# Altium schematic symbol library My_lib.SchLib: 96 symbols
Pins are listed as number, name and electrical type; pins without a type are passive.

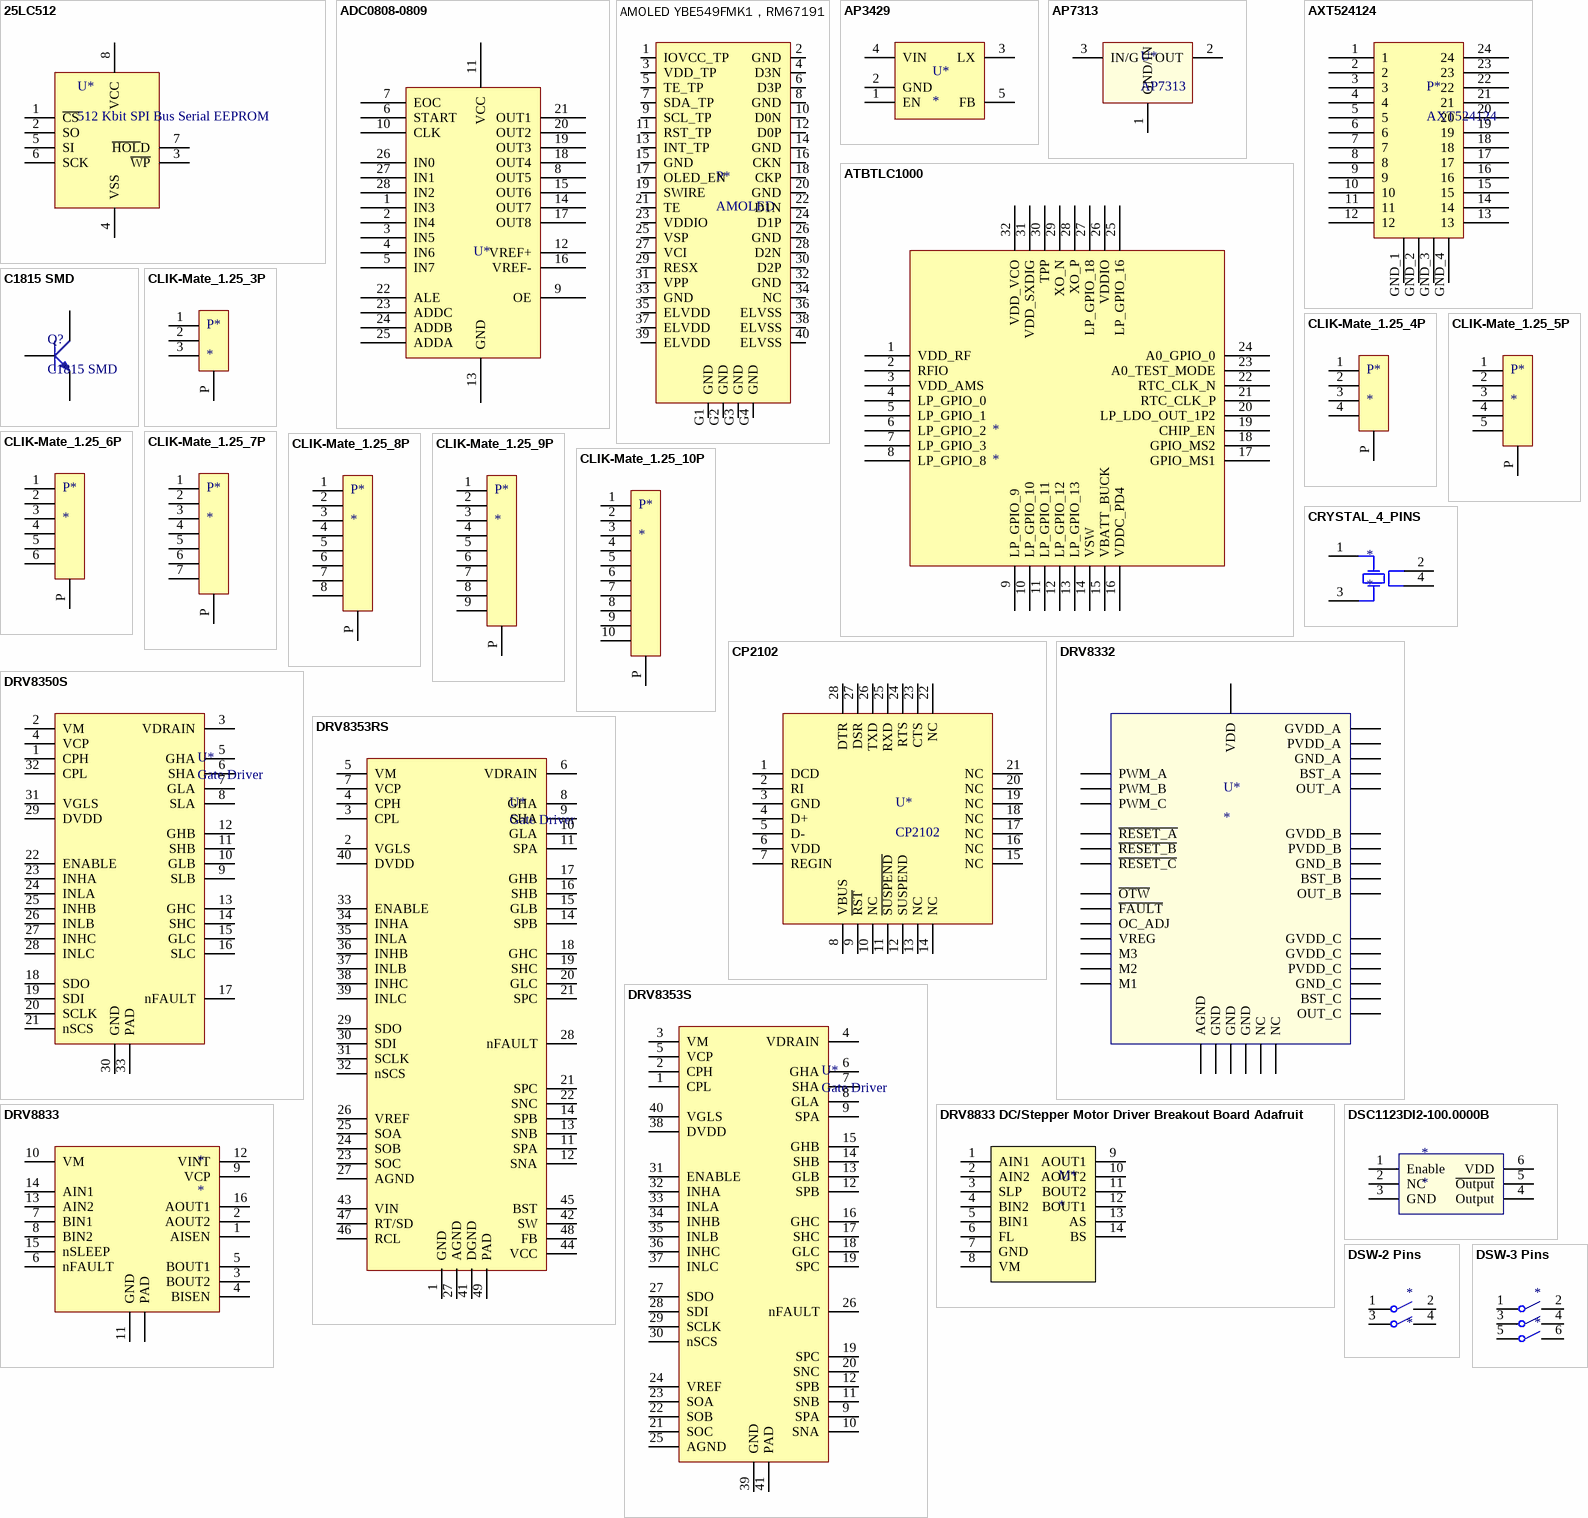
[diagram p0: symbols 25LC512 to DSW-3 Pins]

## 25LC512
designator U*, comment 512 Kbit SPI Bus Serial EEPROM
footprint SOIC8 (SOIC, 8-Leads, Body 4.90x3.90mm, Pitch 1.27mm, IPC Low Density)
pins: 1 ~{CS}, 2 SO, 3 ~{WP}, 4 VSS, 5 SI, 6 SCK, 7 ~{HOL}D, 8 VCC

## ADC0808-0809
designator U*, comment ADC  (value not drawn)
footprint DIP28_600
pins: 1 IN3, 2 IN4, 3 IN5, 4 IN6, 5 IN7, 6 START, 7 EOC, 8 OUT5, 9 OE, 10 CLK, 11 VCC, 12 VREF+, 13 GND, 14 OUT7, 15 OUT6, 16 VREF-, 17 OUT8, 18 OUT4, 19 OUT3, 20 OUT2, 21 OUT1, 22 ALE, 23 ADDC, 24 ADDB, 25 ADDA, 26 IN0, 27 IN1, 28 IN2

## AMOLED YBE549FMK1，RM67191
designator P*, comment AMOLED
pins: 1 IOVCC_TP, 2 GND, 3 VDD_TP, 4 D3N, 5 TE_TP, 6 D3P, 7 SDA_TP, 8 GND, 9 SCL_TP, 10 D0N, 11 RST_TP, 12 D0P, 13 INT_TP, 14 GND, 15 GND, 16 CKN, 17 OLED_EN, 18 CKP, 19 SWIRE, 20 GND, 21 TE, 22 D1N, 23 VDDIO, 24 D1P, 25 VSP, 26 GND, 27 VCI, 28 D2N, 29 RESX, 30 D2P, 31 VPP, 32 GND, 33 GND, 34 NC, 35 ELVDD, 36 ELVSS, 37 ELVDD, 38 ELVSS, 39 ELVDD, 40 ELVSS, G1 GND, G2 GND, G3 GND, G4 GND

## AP3429
designator U*
pins: 1 EN, 2 GND, 3 LX, 4 VIN, 5 FB

## AP7313
designator U*
footprint SOT23(3) (SOT23, 5-Leads, Body 2.90x2.45mm, Pitch 0.95mm, IPC Medium Density)
pins: 1 GND/IN, 2 OUT, 3 IN/G

## ATBTLC1000
designator *
pins: 1 VDD_RF, 2 RFIO, 3 VDD_AMS, 4 LP_GPIO_0, 5 LP_GPIO_1, 6 LP_GPIO_2, 7 LP_GPIO_3, 8 LP_GPIO_8, 9 LP_GPIO_9, 10 LP_GPIO_10, 11 LP_GPIO_11, 12 LP_GPIO_12, 13 LP_GPIO_13, 14 VSW, 15 VBATT_BUCK, 16 VDDC_PD4, 17 GPIO_MS1, 18 GPIO_MS2, 19 CHIP_EN, 20 LP_LDO_OUT_1P2, 21 RTC_CLK_P, 22 RTC_CLK_N, 23 A0_TEST_MODE, 24 A0_GPIO_0, 25 LP_GPIO_16, 26 VDDIO, 27 LP_GPIO_18, 28 XO_P, 29 XO_N, 30 TPP, 31 VDD_SXDIG, 32 VDD_VCO

## AXT524124
designator P*
footprint AXT524124 (Narrow Pitch Connector F4S (0.4 mm pitch) Socket - 24 Pins -  Mated height 1.0 mm - Without positioning bosses -  Base: Ni plating Surface: Au plating (for Ni barrier available))
pins: 1, 2, 3, 4, 5, 6, 7, 8, 9, 10, 11, 12, 13, 14, 15, 16, 17, 18, 19, 20, 21, 22, 23, 24, GND_1, GND_2, GND_3, GND_4

## C1815 SMD
designator Q?
pins: 1 B, 2 E, 3 C

## CLIK-Mate_1.25_3P
designator P*
CLIK-Mate Wire-to-Board PCB Receptacle, 1.25mm Pitch, Single Row, Vertical, 3 Circuits
footprint CLIK-Mate_1.25_3P (CLIK-Mate Wire-to-Board PCB Receptacle, 1.25mm Pitch, Single Row, Vertical, 3 Circuits)
pins: 1, 2, 3, P

## CLIK-Mate_1.25_4P
designator P*
CLIK-Mate Wire-to-Board PCB Receptacle, 1.25mm Pitch, Single Row, Vertical, 4 Circuits
footprint CLIK-Mate_1.25_4P (CLIK-Mate Wire-to-Board PCB Receptacle, 1.25mm Pitch, Single Row, Vertical, 4 Circuits)
pins: 1, 2, 3, 4, P

## CLIK-Mate_1.25_5P
designator P*
CLIK-Mate Wire-to-Board PCB Receptacle, 1.25mm Pitch, Single Row, Vertical, 5 Circuits
footprint CLIK-Mate_1.25_5P (CLIK-Mate Wire-to-Board PCB Receptacle, 1.25mm Pitch, Single Row, Vertical, 5 Circuits)
pins: 1, 2, 3, 4, 5, P

## CLIK-Mate_1.25_6P
designator P*
CLIK-Mate Wire-to-Board PCB Receptacle, 1.25mm Pitch, Single Row, Vertical, 6 Circuits
footprint CLIK-Mate_1.25_6P (CLIK-Mate Wire-to-Board PCB Receptacle, 1.25mm Pitch, Single Row, Vertical, 6 Circuits)
pins: 1, 2, 3, 4, 5, 6, P

## CLIK-Mate_1.25_7P
designator P*
CLIK-Mate Wire-to-Board PCB Receptacle, 1.25mm Pitch, Single Row, Vertical, 7 Circuits
footprint CLIK-Mate_1.25_7P (CLIK-Mate Wire-to-Board PCB Receptacle, 1.25mm Pitch, Single Row, Vertical, 7 Circuits)
pins: 1, 2, 3, 4, 5, 6, 7, P

## CLIK-Mate_1.25_8P
designator P*
CLIK-Mate Wire-to-Board PCB Receptacle, 1.25mm Pitch, Single Row, Vertical, 8 Circuits
footprint CLIK-Mate_1.25_8P (CLIK-Mate Wire-to-Board PCB Receptacle, 1.25mm Pitch, Single Row, Vertical, 8 Circuits)
pins: 1, 2, 3, 4, 5, 6, 7, 8, P

## CLIK-Mate_1.25_9P
designator P*
CLIK-Mate Wire-to-Board PCB Receptacle, 1.25mm Pitch, Single Row, Vertical, 9 Circuits
footprint CLIK-Mate_1.25_9P (CLIK-Mate Wire-to-Board PCB Receptacle, 1.25mm Pitch, Single Row, Vertical, 9 Circuits)
pins: 1, 2, 3, 4, 5, 6, 7, 8, 9, P

## CLIK-Mate_1.25_10P
designator P*
CLIK-Mate Wire-to-Board PCB Receptacle, 1.25mm Pitch, Single Row, Vertical, 10 Circuits
footprint CLIK-Mate_1.25_10P (CLIK-Mate Wire-to-Board PCB Receptacle, 1.25mm Pitch, Single Row, Vertical, 10 Circuits)
pins: 1, 2, 3, 4, 5, 6, 7, 8, 9, 10, P

## CP2102
designator U*
footprint QFN28_pitch 0.5 (28-Pin QFN with Exposed Thermal Pad with 0.5mm pitch)
pins: 1 DCD, 2 RI, 3 GND, 4 D+, 5 D-, 6 VDD, 7 REGIN, 8 VBUS, 9 ~{RST}, 10 NC, 11 ~{SUSPEND}, 12 SUSPEND, 13 NC, 14 NC, 15 NC, 16 NC, 17 NC, 18 NC, 19 NC, 20 NC, 21 NC, 22 NC, 23 CTS, 24 RTS, 25 RXD, 26 TXD, 27 DSR, 28 DTR

## CRYSTAL_4_PINS
designator *
footprint SMD3225(4) (SMD3225, 4-Leads, Body 2.50x3.20mm, Pitch 2.10mm, IPC Medium Density)
pins: 1 OSC1, 2 OSC2, 3 OSC2, 4

## DRV8332
designator U*
Three-Phase PWM Motor Driver
footprint HSSOP36_HEATSINK (HSSOP, 36-Leads, Body 15.90x11.00mm, Pitch 0.65mm, IPC Medium Density)
pins: 1 GVDD_B, 2 ~{OTW}, 3 ~{FAULT}, 4 PWM_A, 5 ~{RESET_A}, 6 PWM_B, 7 OC_ADJ, 8 GND, 9 AGND, 10 VREG, 11 M3, 12 M2, 13 M1, 14 ~{RESET_B}, 15 ~{RESET_C}, 16 PWM_C, 17 VDD, 18 GVDD_C, 19 GVDD_C, 20 BST_C, 21 PVDD_C, 22 OUT_C, 23 GND_C, 24 GND, 25 GND, 26 NC, 27 NC, 28 BST_B, 29 PVDD_B, 30 OUT_B, 31 GND_B, 32 GND_A, 33 OUT_A, 34 PVDD_A, 35 BST_A, 36 GVDD_A

## DRV8350S
designator U*, comment Gate Driver
footprint WQFN_32 (QFN, 32-Leads, Body 5.00x5.00mm, Pitch 0.50mm, Thermal Pad 3.45x3.45mm, IPC High Density)
pins: 1 CPH "Charge pump switching node. Connect a X5R or X7R, 47-nF, VDRAIN-rated ceramic capacitor between the CPH and CPL pins.", 2 VM "Gate driver power supply input. Connect to either VDRAIN or separate gate driver supply voltage. Connect a X5R or X7R, 0.1-µF, VM-rated ceramic and greater then or equal to 10-uF local capacitance between the VM and GND pins.", 3 VDRAIN "High-side MOSFET drain sense input and charge pump reference. Connect to the common point of the MOSFET drains.", 4 VCP "Charge pump output. Connect a X5R or X7R, 1-µF, 16-V ceramic capacitor between the VCP and VDRAIN pins.", 5 GHA "High-side gate driver output. Connect to the gate of the high-side power MOSFET.", 6 SHA "High-side source sense input. Connect to the high-side power MOSFET source.", 7 GLA "Low-side gate driver output. Connect to the gate of the low-side power MOSFET.", 8 SLA "Low-side source sense and shunt amplifier input. Connect to the low-side power MOSFET source and high-side of the current shunt resistor.", 9 SLB "Low-side source sense and shunt amplifier input. Connect to the low-side power MOSFET source and high-side of the current shunt resistor.", 10 GLB "Low-side gate driver output. Connect to the gate of the low-side power MOSFET.", 11 SHB "High-side source sense input. Connect to the high-side power MOSFET source.", 12 GHB "High-side gate driver output. Connect to the gate of the high-side power MOSFET.", 13 GHC "High-side gate driver output. Connect to the gate of the high-side power MOSFET.", 14 SHC "High-side source sense input. Connect to the high-side power MOSFET source.", 15 GLC "Low-side gate driver output. Connect to the gate of the low-side power MOSFET.", 16 SLC "Low-side source sense and shunt amplifier input. Connect to the low-side power MOSFET source and high-side of the current shunt resistor.", 17 nFAULT "Fault indicator output. This pin is pulled logic low during a fault condition and requires an external pullup resistor.", 18 SDO "Serial data output. Data is shifted out on the rising edge of the SCLK pin. This pin requires an external pullup resistor.", 19 SDI "Serial data input. Data is captured on the falling edge of the SCLK pin.", 20 SCLK "Serial clock input. Serial data is shifted out and captured on the corresponding rising and falling edge on this pin.", 21 nSCS "Serial chip select. A logic low on this pin enables serial interface communication.", 22 ENABLE "Gate driver enable. When this pin is logic low the device goes to a low power sleep mode. An 8 to 40-µs low pulse can be used to reset fault conditions.", 23 INHA "High-side gate driver control input. This pin controls the output of the high-side gate driver.", 24 INLA "Low-side gate driver control input. This pin controls the output of the low-side gate driver.", 25 INHB "High-side gate driver control input. This pin controls the output of the high-side gate driver.", 26 INLB "Low-side gate driver control input. This pin controls the output of the low-side gate driver.", 27 INHC "High-side gate driver control input. This pin controls the output of the high-side gate driver.", 28 INLC "Low-side gate driver control input. This pin controls the output of the low-side gate driver.", 29 DVDD "5-V internal regulator output. Connect a X5R or X7R, 1-µF, 6.3-V ceramic capacitor between the DVDD and DGND pins. This regulator can source up to 10 mA externally.", 30 GND "Device power ground. Connect to system ground.", 31 VGLS "11-V internal regulator output. Connect a X5R or X7R, 1-µF, 16-V ceramic capacitor between the VGLS and GND pins.", 32 CPL "Charge pump switching node. Connect a X5R or X7R, 47-nF, VDRAIN-rated ceramic capacitor between the CPH and CPL pins.", 33 PAD "Device ground. Connect to system ground."

## DRV8353RS
designator U*, comment Gate Driver
pins: 1 GND "Device power ground. Connect to system ground.", 2 VGLS "11-V internal regulator output. Connect a X5R or X7R, 1-µF, 16-V ceramic capacitor between the VGLS and GND pins.", 3 CPL "Charge pump switching node. Connect a X5R or X7R, 47-nF, VDRAIN-rated ceramic capacitor between the CPH and CPL pins.", 4 CPH "Charge pump switching node. Connect a X5R or X7R, 47-nF, VDRAIN-rated ceramic capacitor between the CPH and CPL pins.", 5 VM "Gate driver power supply input. Connect to either VDRAIN or separate gate driver supply voltage. Connect a X5R or X7R, 0.1-µF, VM-rated ceramic and greater then or equal to 10-uF local capacitance between the VM and GND pins.", 6 VDRAIN "High-side MOSFET drain sense input and charge pump reference. Connect to the common point of the MOSFET drains.", 7 VCP "Charge pump output. Connect a X5R or X7R, 1-µF, 16-V ceramic capacitor between the VCP and VDRAIN pins.", 8 GHA "High-side gate driver output. Connect to the gate of the high-side power MOSFET.", 9 SHA "High-side source sense input. Connect to the high-side power MOSFET source.", 10 GLA "Low-side gate driver output. Connect to the gate of the low-side power MOSFET.", 11 SPA "Low-side source sense and shunt amplifier input. Connect to the low-side power MOSFET source and high-side of the current shunt resistor.", 11 SPA "Low-side source sense and shunt amplifier input. Connect to the low-side power MOSFET source and high-side of the current shunt resistor.", 12 SNA "Shunt amplifier input. Connect to the low-side of the current shunt resistor.", 13 SNB "Shunt amplifier input. Connect to the low-side of the current shunt resistor.", 14 SPB "Low-side source sense and shunt amplifier input. Connect to the low-side power MOSFET source and high-side of the current shunt resistor.", 14 SPB "Low-side source sense and shunt amplifier input. Connect to the low-side power MOSFET source and high-side of the current shunt resistor.", 15 GLB "Low-side gate driver output. Connect to the gate of the low-side power MOSFET.", 16 SHB "High-side source sense input. Connect to the high-side power MOSFET source.", 17 GHB "High-side gate driver output. Connect to the gate of the high-side power MOSFET.", 18 GHC "High-side gate driver output. Connect to the gate of the high-side power MOSFET.", 19 SHC "High-side source sense input. Connect to the high-side power MOSFET source.", 20 GLC "Low-side gate driver output. Connect to the gate of the low-side power MOSFET.", 21 SPC "Low-side source sense and shunt amplifier input. Connect to the low-side power MOSFET source and high-side of the current shunt resistor.", 21 SPC "Low-side source sense and shunt amplifier input. Connect to the low-side power MOSFET source and high-side of the current shunt resistor.", 22 SNC "Shunt amplifier input. Connect to the low-side of the current shunt resistor.", 23 SOC "Shunt amplifier output.", 24 SOB "Shunt amplifier output.", 25 SOA "Shunt amplifier output.", 26 VREF "Shunt amplifier power supply input and reference. Connect a X5R or X7R, 0.1-µF, 6.3-V ceramic capacitor between the VREF and AGND pins.", 27 AGND "Device analog ground. Connect to system ground.", 27 AGND "Device analog ground. Connect to system ground.", 28 nFAULT "Fault indicator output. This pin is pulled logic low during a fault condition and requires an external pullup resistor.", 29 SDO "Serial data output. Data is shifted out on the rising edge of the SCLK pin. This pin requires an external pullup resistor.", 30 SDI "Serial data input. Data is captured on the falling edge of the SCLK pin.", 31 SCLK "Serial clock input. Serial data is shifted out and captured on the corresponding rising and falling edge on this pin.", 32 nSCS "Serial chip select. A logic low on this pin enables serial interface communication.", 33 ENABLE "Gate driver enable. When this pin is logic low the device goes to a low power sleep mode. An 8 to 40-µs low pulse can be used to reset fault conditions.", 34 INHA "High-side gate driver control input. This pin controls the output of the high-side gate driver.", 35 INLA "Low-side gate driver control input. This pin controls the output of the low-side gate driver.", 36 INHB "High-side gate driver control input. This pin controls the output of the high-side gate driver.", 37 INLB "Low-side gate driver control input. This pin controls the output of the low-side gate driver.", 38 INHC "High-side gate driver control input. This pin controls the output of the high-side gate driver.", 39 INLC "Low-side gate driver control input. This pin controls the output of the low-side gate driver.", 40 DVDD "5-V internal regulator output. Connect a X5R or X7R, 1-µF, 6.3-V ceramic capacitor between the DVDD and DGND pins. This regulator can source up to 10 mA externally.", 41 DGND "Device ground. Connect to system ground.", 42 SW "Buck switch node. Connect this pin to an inductor, diode, and the CB bootstrap capacitor.", 43 VIN "Buck regulator power supply input. Place an X5R or X7R, VM-rated ceramic capacitor between the VIN and BGND pins.", 44 VCC "7-V internal regulator output. Gate supply for buck switch. Connect a X5R or X7R, 0.47-µF, 16-V ceramic capacitor between the VCC and GND pins.", 45 BST "Buck regulator bootstrap input. Connect a X5R or X7R, 0.01-µF, 16-V, capacitor between the BST and SW pins.", 46 RCL "Current limit off time set input. Connect a resistor between RCL and GND.", 47 RT/SD "On time set and remote shutdown input. Connect a resistor between RT/SD and VIN.", 48 FB "Buck feedback input. A resistor divider from the buck post inductor output to this pin sets the buck output voltage.", 49 PAD "Device ground. Connect to system ground."

## DRV8353S
designator U*, comment Gate Driver
footprint WQFN_40 (WQFN, 40-Leads, Body 6.00x6.00mm, Pitch 0.50mm, Thermal Pad 4.15x4.15mm, IPC Medium Density)
pins: 1 CPL "Charge pump switching node. Connect a X5R or X7R, 47-nF, VDRAIN-rated ceramic capacitor between the CPH and CPL pins.", 2 CPH "Charge pump switching node. Connect a X5R or X7R, 47-nF, VDRAIN-rated ceramic capacitor between the CPH and CPL pins.", 3 VM "Gate driver power supply input. Connect to either VDRAIN or separate gate driver supply voltage. Connect a X5R or X7R, 0.1-µF, VM-rated ceramic and greater then or equal to 10-uF local capacitance between the VM and GND pins.", 4 VDRAIN "High-side MOSFET drain sense input and charge pump reference. Connect to the common point of the MOSFET drains.", 5 VCP "Charge pump output. Connect a X5R or X7R, 1-µF, 16-V ceramic capacitor between the VCP and VDRAIN pins.", 6 GHA "High-side gate driver output. Connect to the gate of the high-side power MOSFET.", 7 SHA "High-side source sense input. Connect to the high-side power MOSFET source.", 8 GLA "Low-side gate driver output. Connect to the gate of the low-side power MOSFET.", 9 SPA "Low-side source sense and shunt amplifier input. Connect to the low-side power MOSFET source and high-side of the current shunt resistor.", 9 SPA "Low-side source sense and shunt amplifier input. Connect to the low-side power MOSFET source and high-side of the current shunt resistor.", 10 SNA "Shunt amplifier input. Connect to the low-side of the current shunt resistor.", 11 SNB "Shunt amplifier input. Connect to the low-side of the current shunt resistor.", 12 SPB "Low-side source sense and shunt amplifier input. Connect to the low-side power MOSFET source and high-side of the current shunt resistor.", 12 SPB "Low-side source sense and shunt amplifier input. Connect to the low-side power MOSFET source and high-side of the current shunt resistor.", 13 GLB "Low-side gate driver output. Connect to the gate of the low-side power MOSFET.", 14 SHB "High-side source sense input. Connect to the high-side power MOSFET source.", 15 GHB "High-side gate driver output. Connect to the gate of the high-side power MOSFET.", 16 GHC "High-side gate driver output. Connect to the gate of the high-side power MOSFET.", 17 SHC "High-side source sense input. Connect to the high-side power MOSFET source.", 18 GLC "Low-side gate driver output. Connect to the gate of the low-side power MOSFET.", 19 SPC "Low-side source sense and shunt amplifier input. Connect to the low-side power MOSFET source and high-side of the current shunt resistor.", 19 SPC "Low-side source sense and shunt amplifier input. Connect to the low-side power MOSFET source and high-side of the current shunt resistor.", 20 SNC "Shunt amplifier input. Connect to the low-side of the current shunt resistor.", 21 SOC "Shunt amplifier output.", 22 SOB "Shunt amplifier output.", 23 SOA "Shunt amplifier output.", 24 VREF "Shunt amplifier power supply input and reference. Connect a X5R or X7R, 0.1-µF, 6.3-V ceramic capacitor between the VREF and AGND pins.", 25 AGND "Device analog ground. Connect to system ground.", 26 nFAULT "Fault indicator output. This pin is pulled logic low during a fault condition and requires an external pullup resistor.", 27 SDO "Serial data output. Data is shifted out on the rising edge of the SCLK pin. This pin requires an external pullup resistor.", 28 SDI "Serial data input. Data is captured on the falling edge of the SCLK pin.", 29 SCLK "Serial clock input. Serial data is shifted out and captured on the corresponding rising and falling edge on this pin.", 30 nSCS "Serial chip select. A logic low on this pin enables serial interface communication.", 31 ENABLE "Gate driver enable. When this pin is logic low the device goes to a low power sleep mode. An 8 to 40-µs low pulse can be used to reset fault conditions.", 32 INHA "High-side gate driver control input. This pin controls the output of the high-side gate driver.", 33 INLA "Low-side gate driver control input. This pin controls the output of the low-side gate driver.", 34 INHB "High-side gate driver control input. This pin controls the output of the high-side gate driver.", 35 INLB "Low-side gate driver control input. This pin controls the output of the low-side gate driver.", 36 INHC "High-side gate driver control input. This pin controls the output of the high-side gate driver.", 37 INLC "Low-side gate driver control input. This pin controls the output of the low-side gate driver.", 38 DVDD "5-V internal regulator output. Connect a X5R or X7R, 1-µF, 6.3-V ceramic capacitor between the DVDD and DGND pins. This regulator can source up to 10 mA externally.", 39 GND "Device power ground. Connect to system ground.", 40 VGLS "11-V internal regulator output. Connect a X5R or X7R, 1-µF, 16-V ceramic capacitor between the VGLS and GND pins.", 41 PAD "Device ground. Connect to system ground."

## DRV8833
designator *
footprint WQFN_16 (WQFN, 16-Leads, Body 4.00x4.00mm, Pitch 0.65mm, Thermal Pad 2.10x2.10mm, IPC Medium Density)
pins: 1 AISEN, 2 AOUT2, 3 BOUT2, 4 BISEN, 5 BOUT1, 6 nFAULT, 7 BIN1, 8 BIN2, 9 VCP, 10 VM, 11 GND, 12 VINT, 13 AIN2, 14 AIN1, 15 nSLEEP, 16 AOUT1, 17 PAD

## DRV8833 DC/Stepper Motor Driver Breakout Board Adafruit
designator M*
footprint DRV8833 DC/Stepper Motor Driver Breakout Board Adafruit
pins: 1 AIN1, 2 AIN2, 3 SLP, 4 BIN2, 5 BIN1, 6 FL, 7 GND, 8 VM, 9 AOUT1, 10 AOUT2, 11 BOUT2, 12 BOUT1, 13 AS, 14 BS

## DSC1123DI2-100.0000B
designator *
pins: 1 Enable, 2 NC, 3 GND, 4 Output, 5 ~{Output}, 6 VDD

## DSW-2 Pins
designator *
footprint DSW_2 Pins
pins: 1, 2, 3, 4

## DSW-3 Pins
designator *
footprint DSW_3 Pins
pins: 1, 2, 3, 4, 5, 6

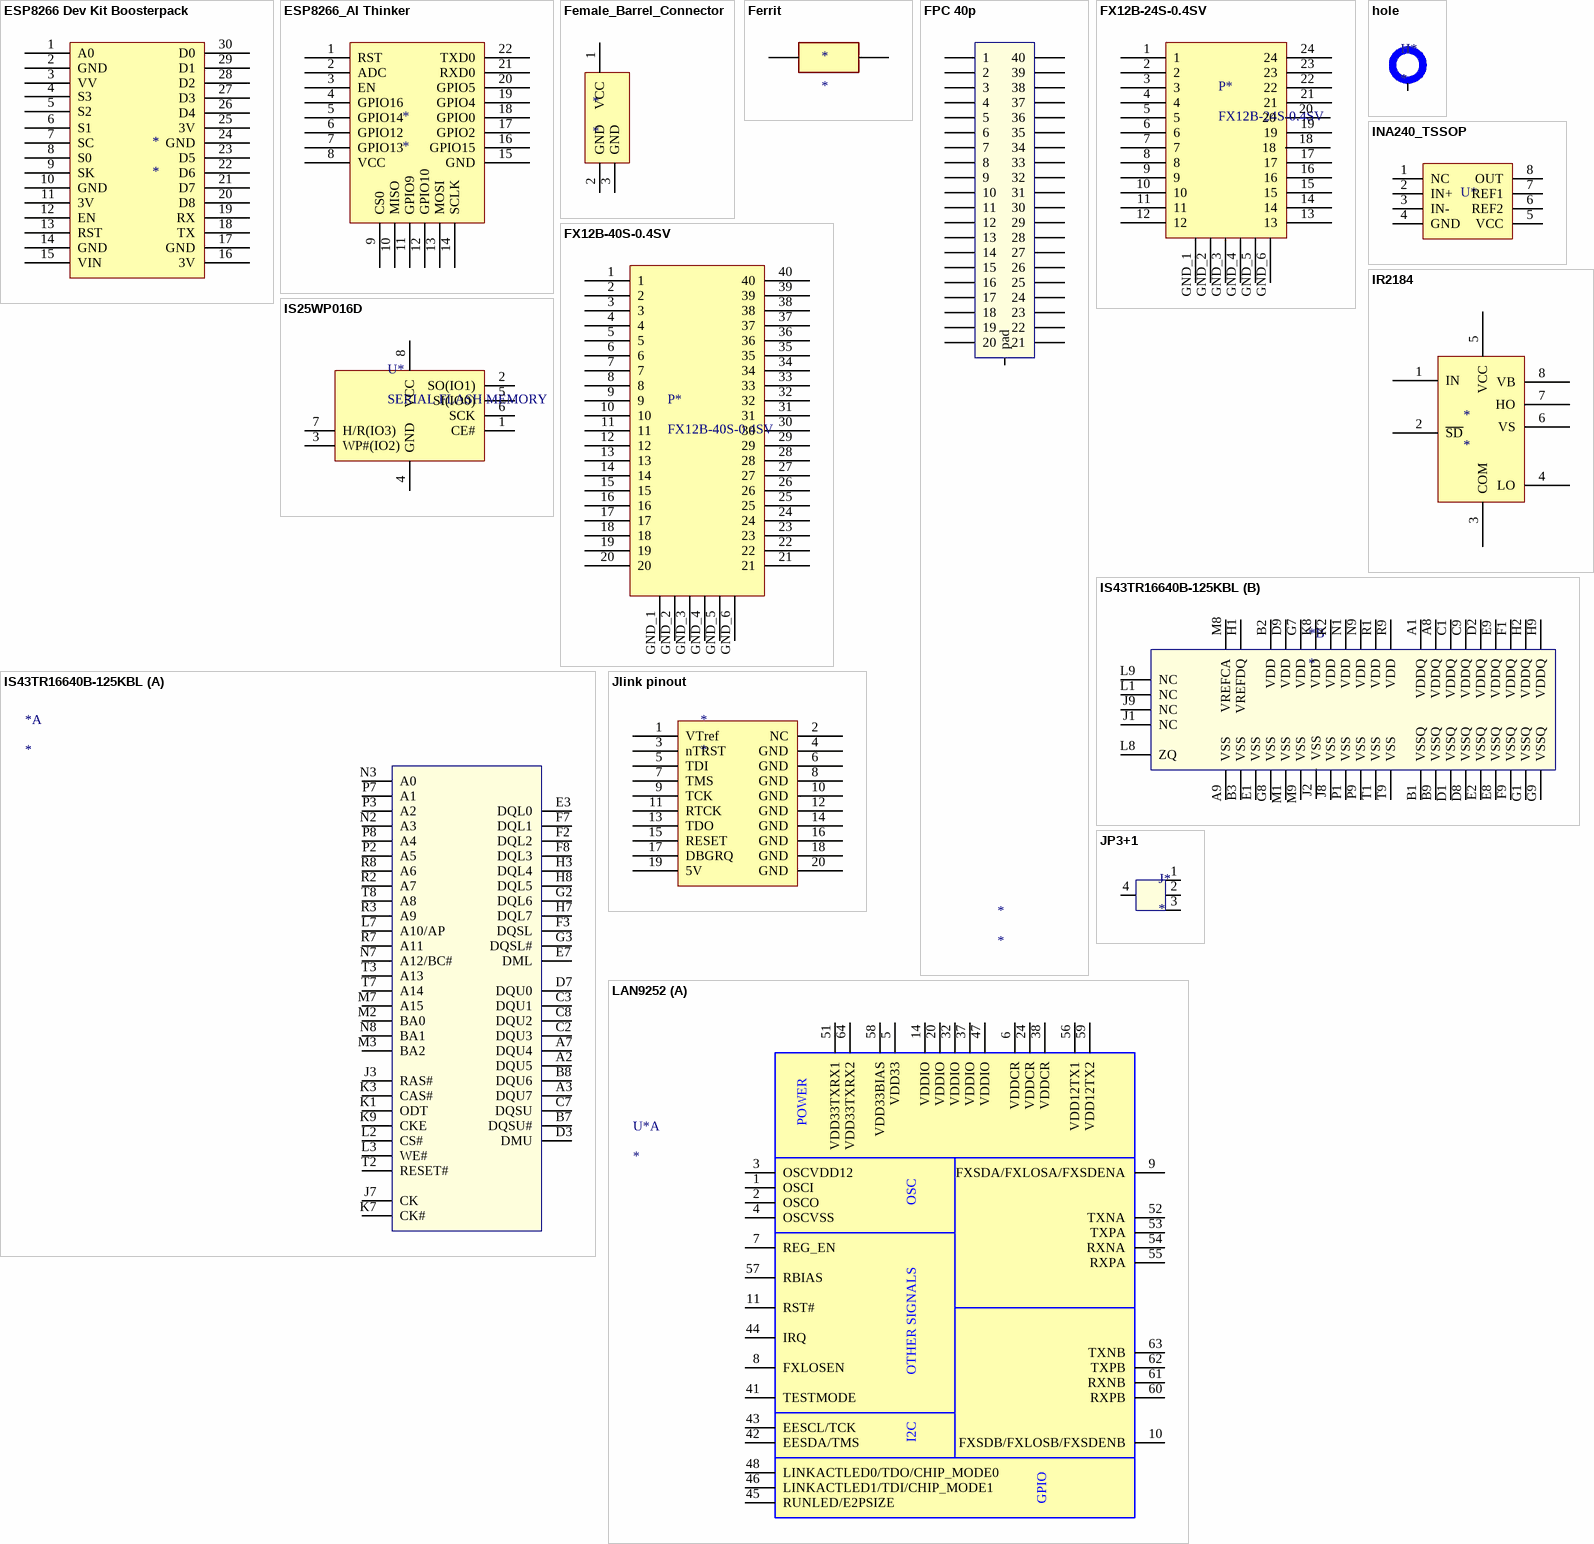
[diagram p1: symbols ESP8266 Dev Kit Boosterpack to LAN9252]

## ESP8266 Dev Kit Boosterpack
designator *
pins: 1 A0, 2 GND, 3 VV, 4 S3, 5 S2, 6 S1, 7 SC, 8 S0, 9 SK, 10 GND, 11 3V, 12 EN, 13 RST, 14 GND, 15 VIN, 16 3V, 17 GND, 18 TX, 19 RX, 20 D8, 21 D7, 22 D6, 23 D5, 24 GND, 25 3V, 26 D4, 27 D3, 28 D2, 29 D1, 30 D0

## ESP8266_AI Thinker
designator *
pins: 1 RST, 2 ADC, 3 EN, 4 GPIO16, 5 GPIO14, 6 GPIO12, 7 GPIO13, 8 VCC, 9 CS0, 10 MISO, 11 GPIO9, 12 GPIO10, 13 MOSI, 14 SCLK, 15 GND, 16 GPIO15, 17 GPIO2, 18 GPIO0, 19 GPIO4, 20 GPIO5, 21 RXD0, 22 TXD0

## Female_Barrel_Connector
designator *
footprint Female_Barrel_Connector
pins: 1 VCC, 2 GND, 3 GND

## Ferrit
designator *
pins: 0 1, 1 2

## FPC 40p
designator *
footprint FPC connector 0.5mm pitch 40p
pins: 0 pad, 1, 2, 3, 4, 5, 6, 7, 8, 9, 10, 11, 12, 13, 14, 15, 16, 17, 18, 19, 20, 21, 22, 23, 24, 25, 26, 27, 28, 29, 30, 31, 32, 33, 34, 35, 36, 37, 38, 39, 40

## FX12B-24S-0.4SV
designator P*
footprint FX12B-24S-0.4SV
pins: 1, 2, 3, 4, 5, 6, 7, 8, 9, 10, 11, 12, 13, 14, 15, 16, 17, 18, 19, 20, 21, 22, 23, 24, GND_1, GND_2, GND_3, GND_4, GND_5, GND_6

## FX12B-40S-0.4SV
designator P*
footprint FX12B-40S-0.4SV
pins: 1, 2, 3, 4, 5, 6, 7, 8, 9, 10, 11, 12, 13, 14, 15, 16, 17, 18, 19, 20, 21, 22, 23, 24, 25, 26, 27, 28, 29, 30, 31, 32, 33, 34, 35, 36, 37, 38, 39, 40, GND_1, GND_2, GND_3, GND_4, GND_5, GND_6

## hole
designator H*
footprint 3mm HOLE
footprint hole 2mm
pins: 0 GND

## INA240_TSSOP
designator U*
High- and Low-Side, Bidirectional, Zero-Drift, Current-Sense Amplifier With Enhanced PWM Rejection
footprint TSSOP-8-PITCH 0.65 (TSSOP, 8-Leads, Body 3.00x4.40mm, Pitch 0.65mm, IPC High Density)
pins: 1 NC, 2 IN+, 3 IN-, 4 GND, 5 VCC, 6 REF2, 7 REF1, 8 OUT

## IR2184
designator *
pins: 1 IN, 2 ~{SD}, 3 COM, 4 LO, 5 VCC, 6 VS, 7 HO, 8 VB

## IS25WP016D
designator U*, comment SERIAL FLASH MEMORY
footprint SOIC8 (SOIC, 8-Leads, Body 4.90x3.90mm, Pitch 1.27mm, IPC Low Density)
pins: 1 CE#, 2 SO(IO1), 3 WP#(IO2), 4 GND, 5 SI(IO0), 6 SCK, 7 H/R(IO3), 8 VCC

## IS43TR16640B-125KBL
designator *
part A pins: A2 DQU5, A3 DQU7, A7 DQU4, B7 DQSU#, B8 DQU6, C2 DQU3, C3 DQU1, C7 DQSU, C8 DQU2, D3 DMU, D7 DQU0, E3 DQL0, E7 DML, F2 DQL2, F3 DQSL, F7 DQL1, F8 DQL3, G2 DQL6, G3 DQSL#, H3 DQL4, H7 DQL7, H8 DQL5, J3 RAS#, J7 CK, K1 ODT, K3 CAS#, K7 CK#, K9 CKE, L2 CS#, L3 WE#, L7 A10/AP, M2 BA0, M3 BA2, M7 A15, N2 A3, N3 A0, N7 A12/BC#, N8 BA1, P2 A5, P3 A2, P7 A1, P8 A4, R2 A7, R3 A9, R7 A11, R8 A6, T2 RESET#, T3 A13, T7 A14, T8 A8
part B pins: A1 VDDQ, A8 VDDQ, A9 VSS, B1 VSSQ, B2 VDD, B3 VSS, B9 VSSQ, C1 VDDQ, C9 VDDQ, D1 VSSQ, D2 VDDQ, D8 VSSQ, D9 VDD, E1 VSS, E2 VSSQ, E8 VSSQ, E9 VDDQ, F1 VDDQ, F9 VSSQ, G1 VSSQ, G7 VDD, G8 VSS, G9 VSSQ, H1 VREFDQ, H2 VDDQ, H9 VDDQ, J1 NC, J2 VSS, J8 VSS, J9 NC, K2 VDD, K8 VDD, L1 NC, L8 ZQ, L9 NC, M1 VSS, M8 VREFCA, M9 VSS, N1 VDD, N9 VDD, P1 VSS, P9 VSS, R1 VDD, R9 VDD, T1 VSS, T9 VSS

## Jlink pinout
designator *
footprint BOX HEADER 2X10 PITCH 2.54MM
pins: 1 VTref, 2 NC, 3 nTRST, 4 GND, 5 TDI, 6 GND, 7 TMS, 8 GND, 9 TCK, 10 GND, 11 RTCK, 12 GND, 13 TDO, 14 GND, 15 RESET, 16 GND, 17 DBGRQ, 18 GND, 19 5V, 20 GND

## JP3+1
designator J*
footprint JP3+1
pins: 1, 2, 3, 4

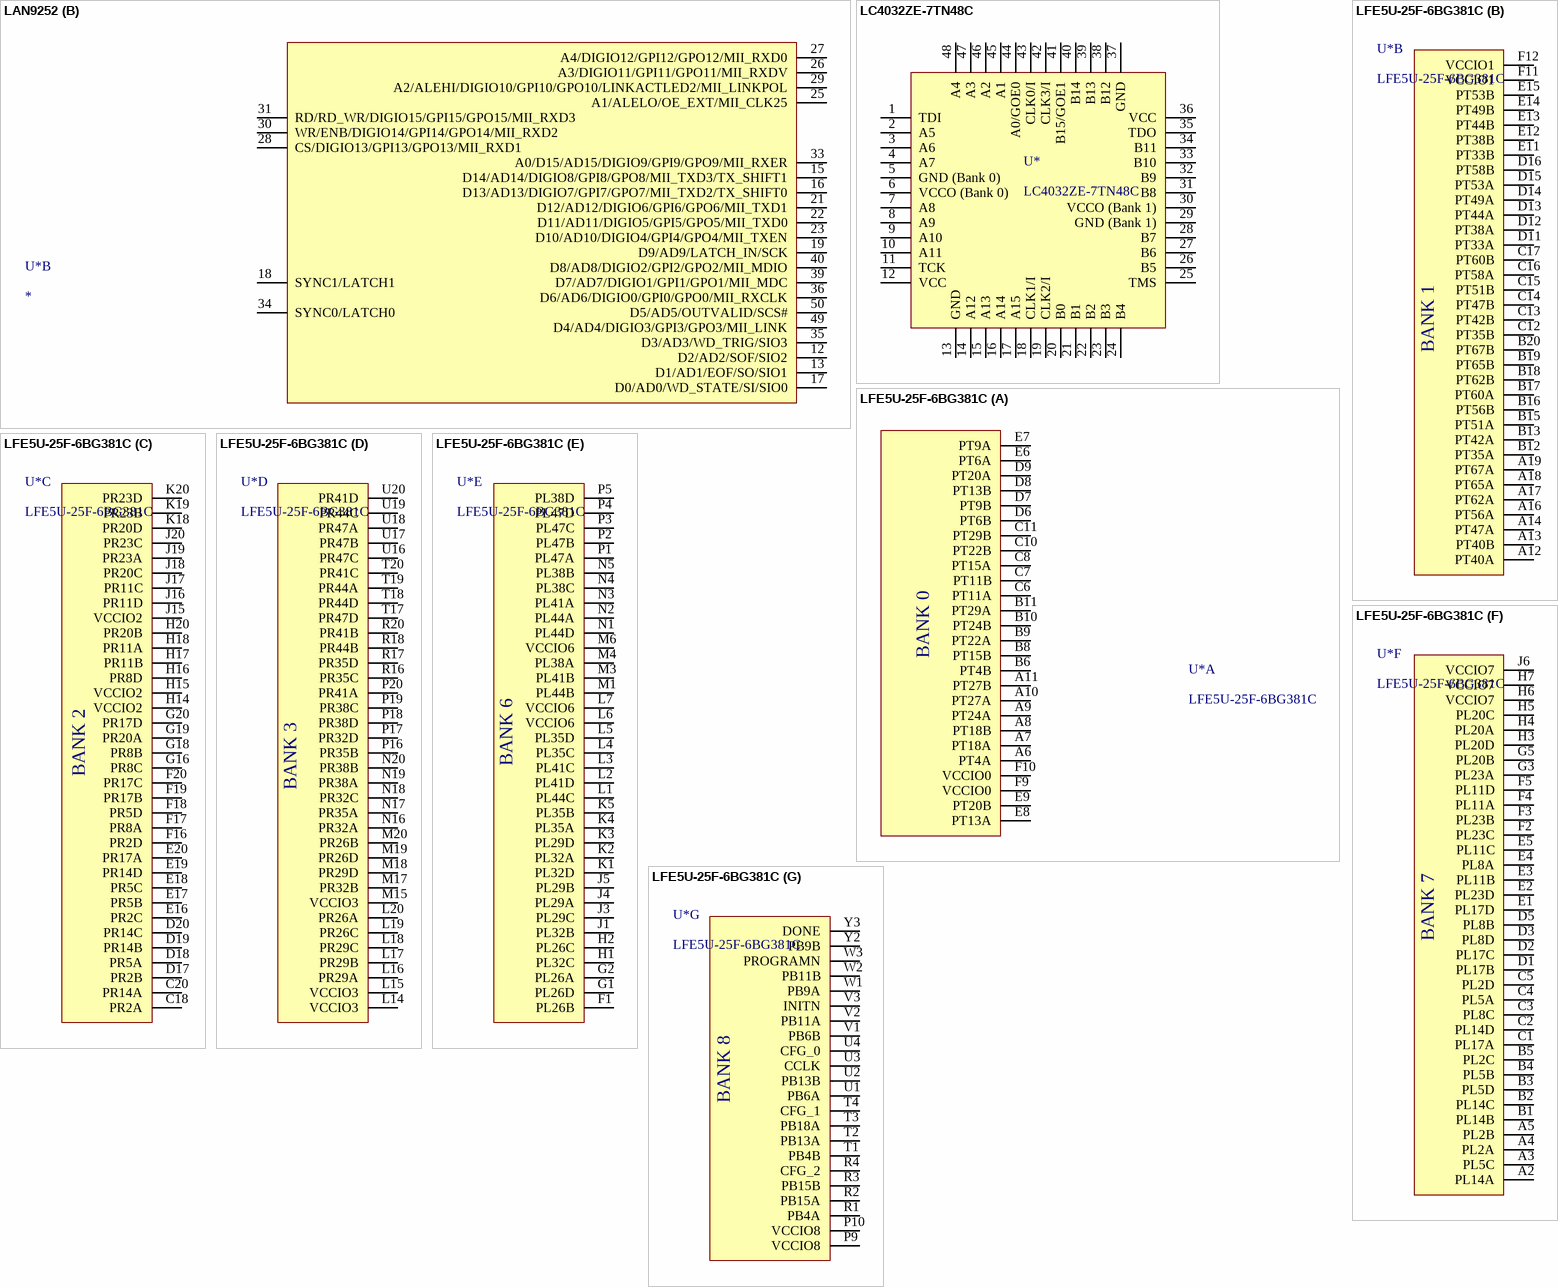
[diagram p2: symbols LAN9252 to LFE5U-25F-6BG381C]

## LAN9252
designator U*
2/3-Port EtherCAT® Slave Controller with Integrated Ethernet PHYs
footprint QFN64_PITCH 0.5 (64-Pin QFN with Exposed Thermal Pad with 0.5mm pitch)
footprint TQFP64_PITCH 0.5_THERMAL PAD (TQFP, 64-Leads, Body 10.00x10.00mm, Pitch 0.50mm, Thermal Pad 5.75x5.75mm, IPC High Density)
part A pins: 1 OSCI, 2 OSCO, 3 OSCVDD12, 4 OSCVSS, 5 VDD33, 6 VDDCR, 7 REG_EN, 8 FXLOSEN, 9 FXSDA/FXLOSA/FXSDENA, 10 FXSDB/FXLOSB/FXSDENB, 11 RST#, 14 VDDIO, 20 VDDIO, 24 VDDCR, 32 VDDIO, 37 VDDIO, 38 VDDCR, 41 TESTMODE, 42 EESDA/TMS, 43 EESCL/TCK, 44 IRQ, 45 RUNLED/E2PSIZE, 46 LINKACTLED1/TDI/CHIP_MODE1, 47 VDDIO, 48 LINKACTLED0/TDO/CHIP_MODE0, 51 VDD33TXRX1, 52 TXNA, 53 TXPA, 54 RXNA, 55 RXPA, 56 VDD12TX1, 57 RBIAS, 58 VDD33BIAS, 59 VDD12TX2, 60 RXPB, 61 RXNB, 62 TXPB, 63 TXNB, 64 VDD33TXRX2
part B pins: 12 D2/AD2/SOF/SIO2, 13 D1/AD1/EOF/SO/SIO1, 15 D14/AD14/DIGIO8/GPI8/GPO8/MII_TXD3/TX_SHIFT1, 16 D13/AD13/DIGIO7/GPI7/GPO7/MII_TXD2/TX_SHIFT0, 17 D0/AD0/WD_STATE/SI/SIO0, 18 SYNC1/LATCH1, 19 D9/AD9/LATCH_IN/SCK, 21 D12/AD12/DIGIO6/GPI6/GPO6/MII_TXD1, 22 D11/AD11/DIGIO5/GPI5/GPO5/MII_TXD0, 23 D10/AD10/DIGIO4/GPI4/GPO4/MII_TXEN, 25 A1/ALELO/OE_EXT/MII_CLK25, 26 A3/DIGIO11/GPI11/GPO11/MII_RXDV, 27 A4/DIGIO12/GPI12/GPO12/MII_RXD0, 28 CS/DIGIO13/GPI13/GPO13/MII_RXD1, 29 A2/ALEHI/DIGIO10/GPI10/GPO10/LINKACTLED2/MII_LINKPOL, 30 WR/ENB/DIGIO14/GPI14/GPO14/MII_RXD2, 31 RD/RD_WR/DIGIO15/GPI15/GPO15/MII_RXD3, 33 A0/D15/AD15/DIGIO9/GPI9/GPO9/MII_RXER, 34 SYNC0/LATCH0, 35 D3/AD3/WD_TRIG/SIO3, 36 D6/AD6/DIGIO0/GPI0/GPO0/MII_RXCLK, 39 D7/AD7/DIGIO1/GPI1/GPO1/MII_MDC, 40 D8/AD8/DIGIO2/GPI2/GPO2/MII_MDIO, 49 D4/AD4/DIGIO3/GPI3/GPO3/MII_LINK, 50 D5/AD5/OUTVALID/SCS#
part A text: POWER; OSC; OTHER SIGNALS; I2C; GPIO

## LC4032ZE-7TN48C
designator U*
footprint TQFP-48N (TQFP, 48-Leads, Body 7.00x7.00mm, Pitch 0.50mm)
pins: 1 TDI, 2 A5, 3 A6, 4 A7, 5 GND (Bank 0), 6 VCCO (Bank 0), 7 A8, 8 A9, 9 A10, 10 A11, 11 TCK, 12 VCC, 13 GND, 14 A12, 15 A13, 16 A14, 17 A15, 18 CLK1/I, 19 CLK2/I, 20 B0, 21 B1, 22 B2, 23 B3, 24 B4, 25 TMS, 26 B5, 27 B6, 28 B7, 29 GND (Bank 1), 30 VCCO (Bank 1), 31 B8, 32 B9, 33 B10, 34 B11, 35 TDO, 36 VCC, 37 GND, 38 B12, 39 B13, 40 B14, 41 B15/GOE1, 42 CLK3/I, 43 CLK0/I, 44 A0/GOE0, 45 A1, 46 A2, 47 A3, 48 A4

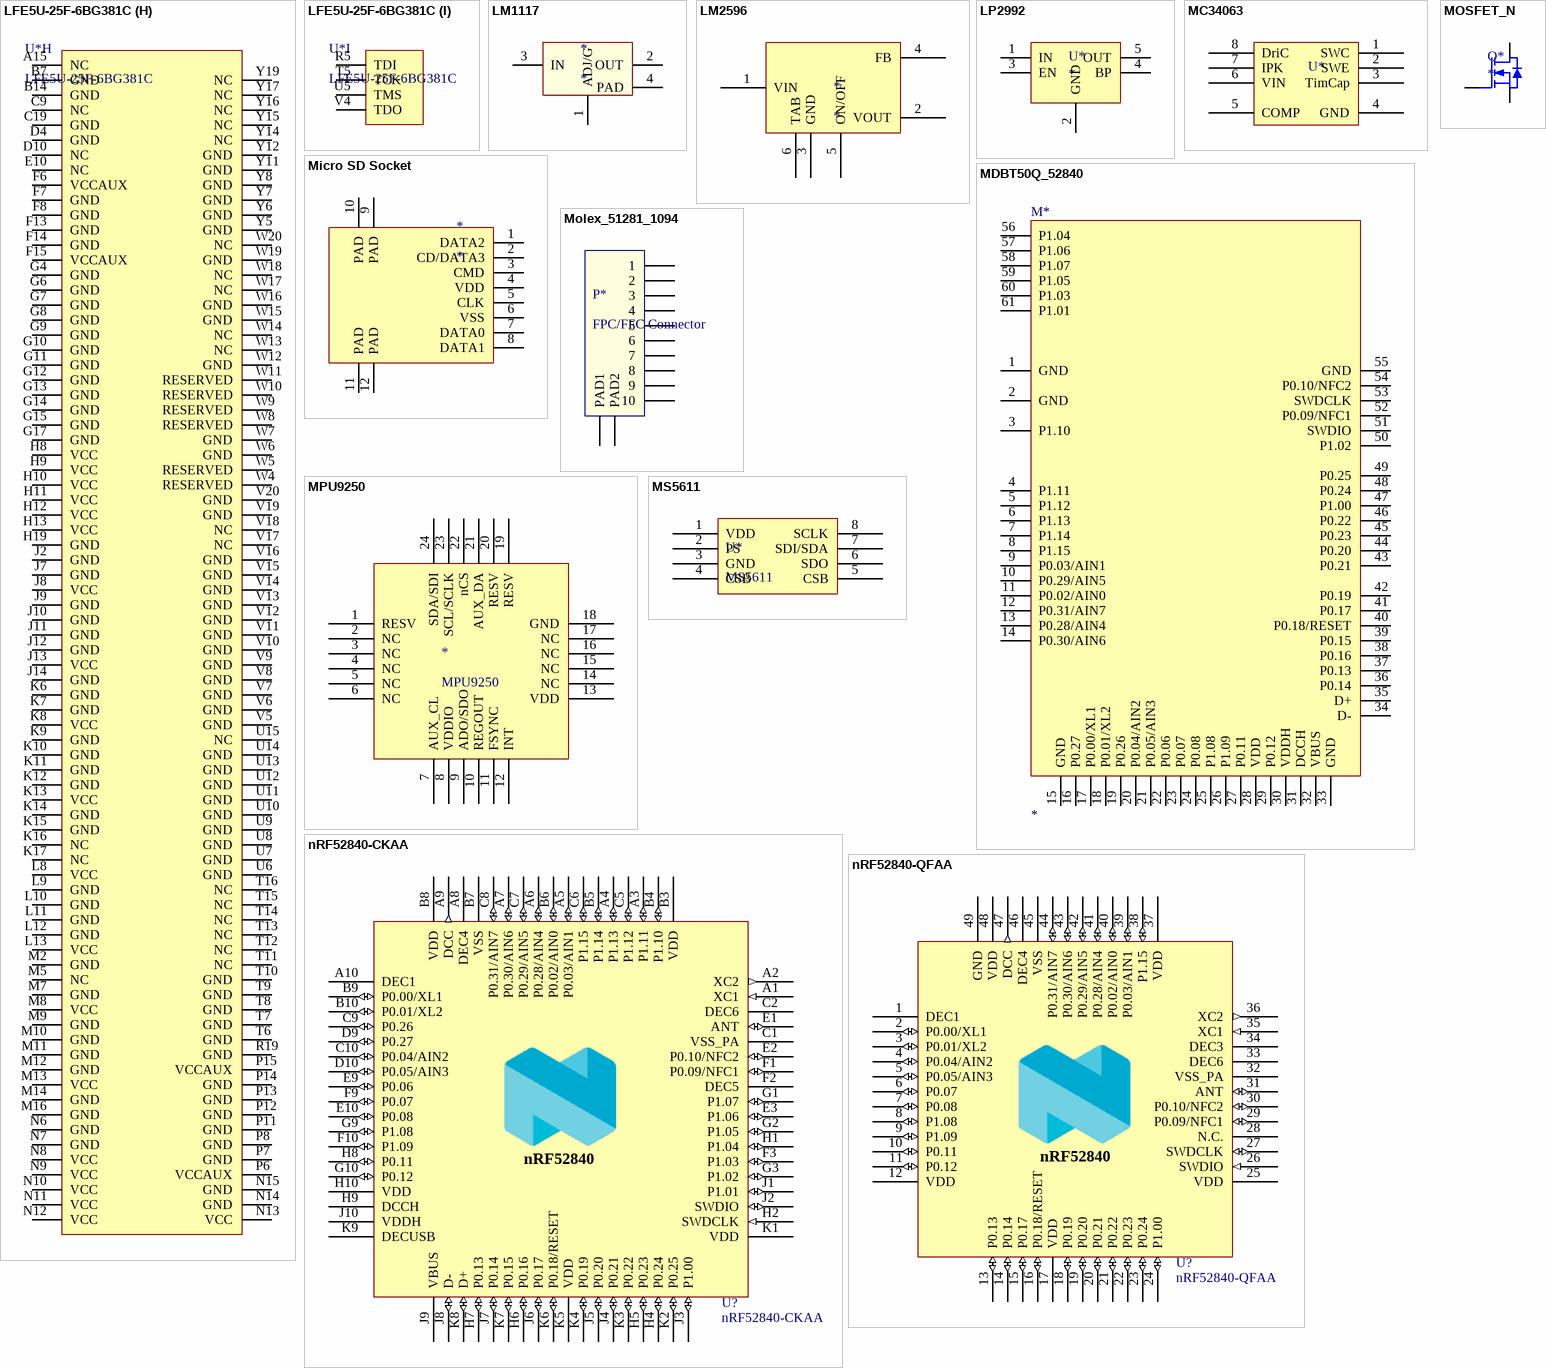
[diagram p3: symbols LFE5U-25F-6BG381C to nRF52840-QFAA]

## LFE5U-25F-6BG381C
designator U*
footprint BGA 381-Ball caBGA - LFE5U-25F-6BG381C (BGA, 381-Leads, Body 17.00x17.00mmx1.76mm, Pitch 0.80mm)
part A pins: A6 PT4A, A7 PT18A, A8 PT18B, A9 PT24A, A10 PT27A, A11 PT27B, B6 PT4B, B8 PT15B, B9 PT22A, B10 PT24B, B11 PT29A, C6 PT11A, C7 PT11B, C8 PT15A, C10 PT22B, C11 PT29B, D6 PT6B, D7 PT9B, D8 PT13B, D9 PT20A, E6 PT6A, E7 PT9A, E8 PT13A, E9 PT20B, F9 VCCIO0, F10 VCCIO0
part B pins: A12 PT40A, A13 PT40B, A14 PT47A, A16 PT56A, A17 PT62A, A18 PT65A, A19 PT67A, B12 PT35A, B13 PT42A, B15 PT51A, B16 PT56B, B17 PT60A, B18 PT62B, B19 PT65B, B20 PT67B, C12 PT35B, C13 PT42B, C14 PT47B, C15 PT51B, C16 PT58A, C17 PT60B, D11 PT33A, D12 PT38A, D13 PT44A, D14 PT49A, D15 PT53A, D16 PT58B, E11 PT33B, E12 PT38B, E13 PT44B, E14 PT49B, E15 PT53B, F11 VCCIO1, F12 VCCIO1
part C pins: C18 PR2A, C20 PR14A, D17 PR2B, D18 PR5A, D19 PR14B, D20 PR14C, E16 PR2C, E17 PR5B, E18 PR5C, E19 PR14D, E20 PR17A, F16 PR2D, F17 PR8A, F18 PR5D, F19 PR17B, F20 PR17C, G16 PR8C, G18 PR8B, G19 PR20A, G20 PR17D, H14 VCCIO2, H15 VCCIO2, H16 PR8D, H17 PR11B, H18 PR11A, H20 PR20B, J15 VCCIO2, J16 PR11D, J17 PR11C, J18 PR20C, J19 PR23A, J20 PR23C, K18 PR20D, K19 PR23B, K20 PR23D
part D pins: L14 VCCIO3, L15 VCCIO3, L16 PR29A, L17 PR29B, L18 PR29C, L19 PR26C, L20 PR26A, M15 VCCIO3, M17 PR32B, M18 PR29D, M19 PR26D, M20 PR26B, N16 PR32A, N17 PR35A, N18 PR32C, N19 PR38A, N20 PR38B, P16 PR35B, P17 PR32D, P18 PR38D, P19 PR38C, P20 PR41A, R16 PR35C, R17 PR35D, R18 PR44B, R20 PR41B, T17 PR47D, T18 PR44D, T19 PR44A, T20 PR41C, U16 PR47C, U17 PR47B, U18 PR47A, U19 PR44C, U20 PR41D
part E pins: F1 PL26B, G1 PL26D, G2 PL26A, H1 PL32C, H2 PL26C, J1 PL32B, J3 PL29C, J4 PL29A, J5 PL29B, K1 PL32D, K2 PL32A, K3 PL29D, K4 PL35A, K5 PL35B, L1 PL44C, L2 PL41D, L3 PL41C, L4 PL35C, L5 PL35D, L6 VCCIO6, L7 VCCIO6, M1 PL44B, M3 PL41B, M4 PL38A, M6 VCCIO6, N1 PL44D, N2 PL44A, N3 PL41A, N4 PL38C, N5 PL38B, P1 PL47A, P2 PL47B, P3 PL47C, P4 PL47D, P5 PL38D
part F pins: A2 PL14A, A3 PL5C, A4 PL2A, A5 PL2B, B1 PL14B, B2 PL14C, B3 PL5D, B4 PL5B, B5 PL2C, C1 PL17A, C2 PL14D, C3 PL8C, C4 PL5A, C5 PL2D, D1 PL17B, D2 PL17C, D3 PL8D, D5 PL8B, E1 PL17D, E2 PL23D, E3 PL11B, E4 PL8A, E5 PL11C, F2 PL23C, F3 PL23B, F4 PL11A, F5 PL11D, G3 PL23A, G5 PL20B, H3 PL20D, H4 PL20A, H5 PL20C, H6 VCCIO7, H7 VCCIO7, J6 VCCIO7
part G pins: P9 VCCIO8, P10 VCCIO8, R1 PB4A, R2 PB15A, R3 PB15B, R4 CFG_2, T1 PB4B, T2 PB13A, T3 PB18A, T4 CFG_1, U1 PB6A, U2 PB13B, U3 CCLK, U4 CFG_0, V1 PB6B, V2 PB11A, V3 INITN, W1 PB9A, W2 PB11B, W3 PROGRAMN, Y2 PB9B, Y3 DONE
part H pins: A15 NC, B7 GND, B14 GND, C9 NC, C19 GND, D4 GND, D10 NC, E10 NC, F6 VCCAUX, F7 GND, F8 GND, F13 GND, F14 GND, F15 VCCAUX, G4 GND, G6 GND, G7 GND, G8 GND, G9 GND, G10 GND, G11 GND, G12 GND, G13 GND, G14 GND, G15 GND, G17 GND, H8 VCC, H9 VCC, H10 VCC, H11 VCC, H12 VCC, H13 VCC, H19 GND, J2 GND, J7 GND, J8 VCC, J9 GND, J10 GND, J11 GND, J12 GND, J13 VCC, J14 GND, K6 GND, K7 GND, K8 VCC, K9 GND, K10 GND, K11 GND, K12 GND, K13 VCC, K14 GND, K15 GND, K16 NC, K17 NC, L8 VCC, L9 GND, L10 GND, L11 GND, L12 GND, L13 VCC, M2 GND, M5 NC, M7 GND, M8 VCC, M9 GND, M10 GND, M11 GND, M12 GND, M13 VCC, M14 GND, M16 GND, N6 GND, N7 GND, N8 VCC, N9 VCC, N10 VCC, N11 VCC, N12 VCC, N13 VCC, N14 GND, N15 GND, P6 VCCAUX, P7 GND, P8 GND, P11 GND, P12 GND, P13 GND, P14 GND, P15 VCCAUX, R19 GND, T6 GND, T7 GND, T8 GND, T9 GND, T10 GND, T11 NC, T12 NC, T13 NC, T14 NC, T15 NC, T16 NC, U6 GND, U7 GND, U8 GND, U9 GND, U10 GND, U11 GND, U12 GND, U13 GND, U14 GND, U15 NC, V5 GND, V6 GND, V7 GND, V8 GND, V9 GND, V10 GND, V11 GND, V12 GND, V13 GND, V14 GND, V15 GND, V16 GND, V17 NC, V18 NC, V19 GND, V20 GND, W4 RESERVED, W5 RESERVED, W6 GND, W7 GND, W8 RESERVED, W9 RESERVED, W10 RESERVED, W11 RESERVED, W12 GND, W13 NC, W14 NC, W15 GND, W16 GND, W17 NC, W18 NC, W19 GND, W20 NC, Y5 GND, Y6 GND, Y7 GND, Y8 GND, Y11 GND, Y12 GND, Y14 NC, Y15 NC, Y16 NC, Y17 NC, Y19 NC
part I pins: R5 TDI, T5 TCK, U5 TMS, V4 TDO
part A text: BANK 0
part B text: BANK 1
part C text: BANK 2
part D text: BANK 3
part E text: BANK 6
part F text: BANK 7
part G text: BANK 8

## LM1117
designator *
pins: 1 ADJ/G, 2 OUT, 3 IN, 4 PAD

## LM2596
designator *
footprint TO263-5 PINS (D2-PAK, 6-Pads, Body 7.55x8.56mm (max), IPC Medium Density)
pins: 1 VIN, 2 VOUT, 3 GND, 4 FB, 5 ON/OFF, 6 TAB

## LP2992
designator U*
footprint SOT23(5) (SOT23, 5-Leads, Body 2.90x2.45mm, Pitch 0.95mm, IPC Medium Density)
pins: 1 IN, 2 GND, 3 EN, 4 BP, 5 OUT

## MC34063
designator U*
Buck/Boost/Inverting Switching Regulator
pins: 1 SWC, 2 SWE, 3 TimCap, 4 GND, 5 COMP, 6 VIN, 7 IPK, 8 DriC

## MDBT50Q_52840
designator M*
MDBT50Q_52840
footprint MDBT50Q-1MV2 (Raytac MDBT50Q-1MV2 deployed Chip Antenna and offers a excellent connectivity ability.)
footprint MDBT50Q-P1MV2 (Raytac MDBT50Q-P1MV2 deployed PCB Antenna and offers a good connectivity ability.)
footprint MDBT50Q-U1MV2 (Raytac MDBT50Q-U1MV2 deployed u.FL connector for External Antenna and offers a super long range connectivity ability)
pins: 1 GND, 2 GND, 3 P1.10, 4 P1.11, 5 P1.12, 6 P1.13, 7 P1.14, 8 P1.15, 9 P0.03/AIN1, 10 P0.29/AIN5, 11 P0.02/AIN0, 12 P0.31/AIN7, 13 P0.28/AIN4, 14 P0.30/AIN6, 15 GND, 16 P0.27, 17 P0.00/XL1, 18 P0.01/XL2, 19 P0.26, 20 P0.04/AIN2, 21 P0.05/AIN3, 22 P0.06, 23 P0.07, 24 P0.08, 25 P1.08, 26 P1.09, 27 P0.11, 28 VDD, 29 P0.12, 30 VDDH, 31 DCCH, 32 VBUS, 33 GND, 34 D-, 35 D+, 36 P0.14, 37 P0.13, 38 P0.16, 39 P0.15, 40 P0.18/RESET, 41 P0.17, 42 P0.19, 43 P0.21, 44 P0.20, 45 P0.23, 46 P0.22, 47 P1.00, 48 P0.24, 49 P0.25, 50 P1.02, 51 SWDIO, 52 P0.09/NFC1, 53 SWDCLK, 54 P0.10/NFC2, 55 GND, 56 P1.04, 57 P1.06, 58 P1.07, 59 P1.05, 60 P1.03, 61 P1.01

## Micro SD Socket
designator *
footprint MICRO_SD_SOCKET_1
footprint MICRO_SD_SOCKET_2
footprint MICRO_SD_SOCKET_3
pins: 1 DATA2, 2 CD/DATA3, 3 CMD, 4 VDD, 5 CLK, 6 VSS, 7 DATA0, 8 DATA1, 9 PAD, 10 PAD, 11 PAD, 12 PAD

## Molex_51281_1094
designator P*, comment FPC/FFC Connector
footprint Molex_51281_1094
pins: 1, 2, 3, 4, 5, 6, 7, 8, 9, 10, PAD1, PAD2

## MOSFET_N
designator Q*
pins: D, G, S

## MPU9250
designator *
footprint QFN_24 (QFN, 24-Leads, Body 3.00x3.00mm, Pitch 0.40mm, IPC Low Density)
pins: 1 RESV, 2 NC, 3 NC, 4 NC, 5 NC, 6 NC, 7 AUX_CL, 8 VDDIO, 9 ADO/SDO, 10 REGOUT, 11 FSYNC, 12 INT, 13 VDD, 14 NC, 15 NC, 16 NC, 17 NC, 18 GND, 19 RESV, 20 RESV, 21 AUX_DA, 22 nCS, 23 SCL/SCLK, 24 SDA/SDI

## MS5611
designator U*
footprint MS5611 (Chip Array, Flat, 8-Leads, Pitch 1.25mm,  Body 5.00x3.00mm,  IPC Medium Density)
pins: 1 VDD, 2 PS, 3 GND, 4 CSB, 5 CSB, 6 SDO, 7 SDI/SDA, 8 SCLK

## nRF52840-CKAA
designator U?
Multi-protocol Bluetooth Low Energy, IEEE 802.15.4, ANT and 2.4GHz proprietary system-on-chip; Pad Count: 94; Part Number: nRF52840-CKAA; LatestRevisionDate: 2021-02-12; Published: 2017-04-18; Value: nRF52840-CKAA; Footprint Doc: WLCSP-94
footprint BGA94C35P10X10_352X356X50
pins: A1 XC1 (in), A2 XC2 (out), A3 P1.11 (io), A4 P1.13 (io), A5 P0.03/AIN1 (io), A6 P0.28/AIN4 (io), A7 P0.30/AIN6 (io), A8 DEC4 (power), A9 DCC (out), A10 DEC1 (power), B3 VDD (power), B4 P1.10 (io), B5 P1.14 (io), B6 P0.02/AIN0 (io), B7 VSS (power), B8 VDD (power), B9 P0.00/XL1 (io), B10 P0.01/XL2 (io), C1 VSS_PA (power), C2 DEC6 (power), C4 GND (power) hidden to GND, C5 P1.12 (io), C6 P1.15 (io), C7 P0.29/AIN5 (io), C8 P0.31/AIN7 (io), C9 P0.26 (io), C10 P0.04/AIN2 (io), D3 GND (power) hidden to GND, D4 GND (power) hidden to GND, D5 GND (power) hidden to GND, D6 GND (power) hidden to GND, D7 GND (power) hidden to GND, D8 GND (power) hidden to GND, D9 P0.27 (io), D10 P0.05/AIN3 (io), E1 ANT (io), E2 P0.10/NFC2 (io), E3 P1.06 (io), E4 GND (power) hidden to GND, E5 GND (power) hidden to GND, E6 GND (power) hidden to GND, E7 GND (power) hidden to GND, E8 GND (power) hidden to GND, E9 P0.06 (io), E10 P0.08 (io), F1 P0.09/NFC1 (io), F2 DEC5 (power), F3 P1.03 (io), F4 GND (power) hidden to GND, F5 GND (power) hidden to GND, F6 GND (power) hidden to GND, F7 GND (power) hidden to GND, F8 GND (power) hidden to GND, F9 P0.07 (io), F10 P1.09 (io), G1 P1.07 (io), G2 P1.05 (io), G3 P1.02 (io), G4 GND (power) hidden to GND, G5 GND (power) hidden to GND, G6 GND (power) hidden to GND, G7 GND (power) hidden to GND, G8 GND (power) hidden to GND, G9 P1.08 (io), G10 P0.12 (io), H1 P1.04 (io), H2 SWDCLK (in), H4 P0.24 (io), H5 P0.23 (io), H6 P0.16 (io), H7 P0.13 (io), H8 P0.11 (io), H9 DCCH (power), H10 VDD (power), J1 P1.01 (io), J2 SWDIO (io), J3 P1.00 (io), J4 P0.21 (io), J5 P0.20 (io), J6 P0.17 (io), J7 P0.14 (io), J8 D- (io), J9 VBUS (power), J10 VDDH (power), K1 VDD (power), K2 P0.25 (io), K3 P0.22 (io), K4 P0.19 (io), K5 VDD (power), K6 P0.18/RESET (io), K7 P0.15 (io), K8 D+ (io), K9 DECUSB (power), K10 GND (power) hidden to GND
text: nRF52840

## nRF52840-QFAA
designator U?
Multi-protocol Bluetooth Low Energy, IEEE 802.15.4, ANT and 2.4GHz proprietary system-on-chip; Pad Count: 48; Part Number: nRF52840-QFAA; LatestRevisionDate: 2016-11-22; Published: 2016-03-31; Value: nRF52840-QFAA; Footprint Doc: QFN-48; Component Class: nRF_Devices
footprint QFN40P600X600X90-48N
pins: 1 DEC1 (power), 2 P0.00/XL1 (io), 3 P0.01/XL2 (io), 4 P0.04/AIN2 (io), 5 P0.05/AIN3 (io), 6 P0.07 (io), 7 P0.08 (io), 8 P1.08 (io), 9 P1.09 (io), 10 P0.11 (io), 11 P0.12 (io), 12 VDD (power), 13 P0.13 (io), 14 P0.14 (io), 15 P0.17 (io), 16 P0.18/RESET (io), 17 VDD (power), 18 P0.19 (io), 19 P0.20 (io), 20 P0.21 (io), 21 P0.22 (io), 22 P0.23 (io), 23 P0.24 (io), 24 P1.00 (io), 25 VDD (power), 26 SWDIO (in), 27 SWDCLK (io), 28 N.C., 29 P0.09/NFC1 (io), 30 P0.10/NFC2 (io), 31 ANT (io), 32 VSS_PA (power), 33 DEC6 (power), 34 DEC3 (power), 35 XC1 (in), 36 XC2 (out), 37 VDD (power), 38 P1.15 (io), 39 P0.03/AIN1 (io), 40 P0.02/AIN0 (io), 41 P0.28/AIN4 (io), 42 P0.29/AIN5 (io), 43 P0.30/AIN6 (io), 44 P0.31/AIN7 (io), 45 VSS (power), 46 DEC4 (power), 47 DCC (out), 48 VDD (power), 49 GND (power) hidden to GND, 49 GND (power)
text: nRF52840

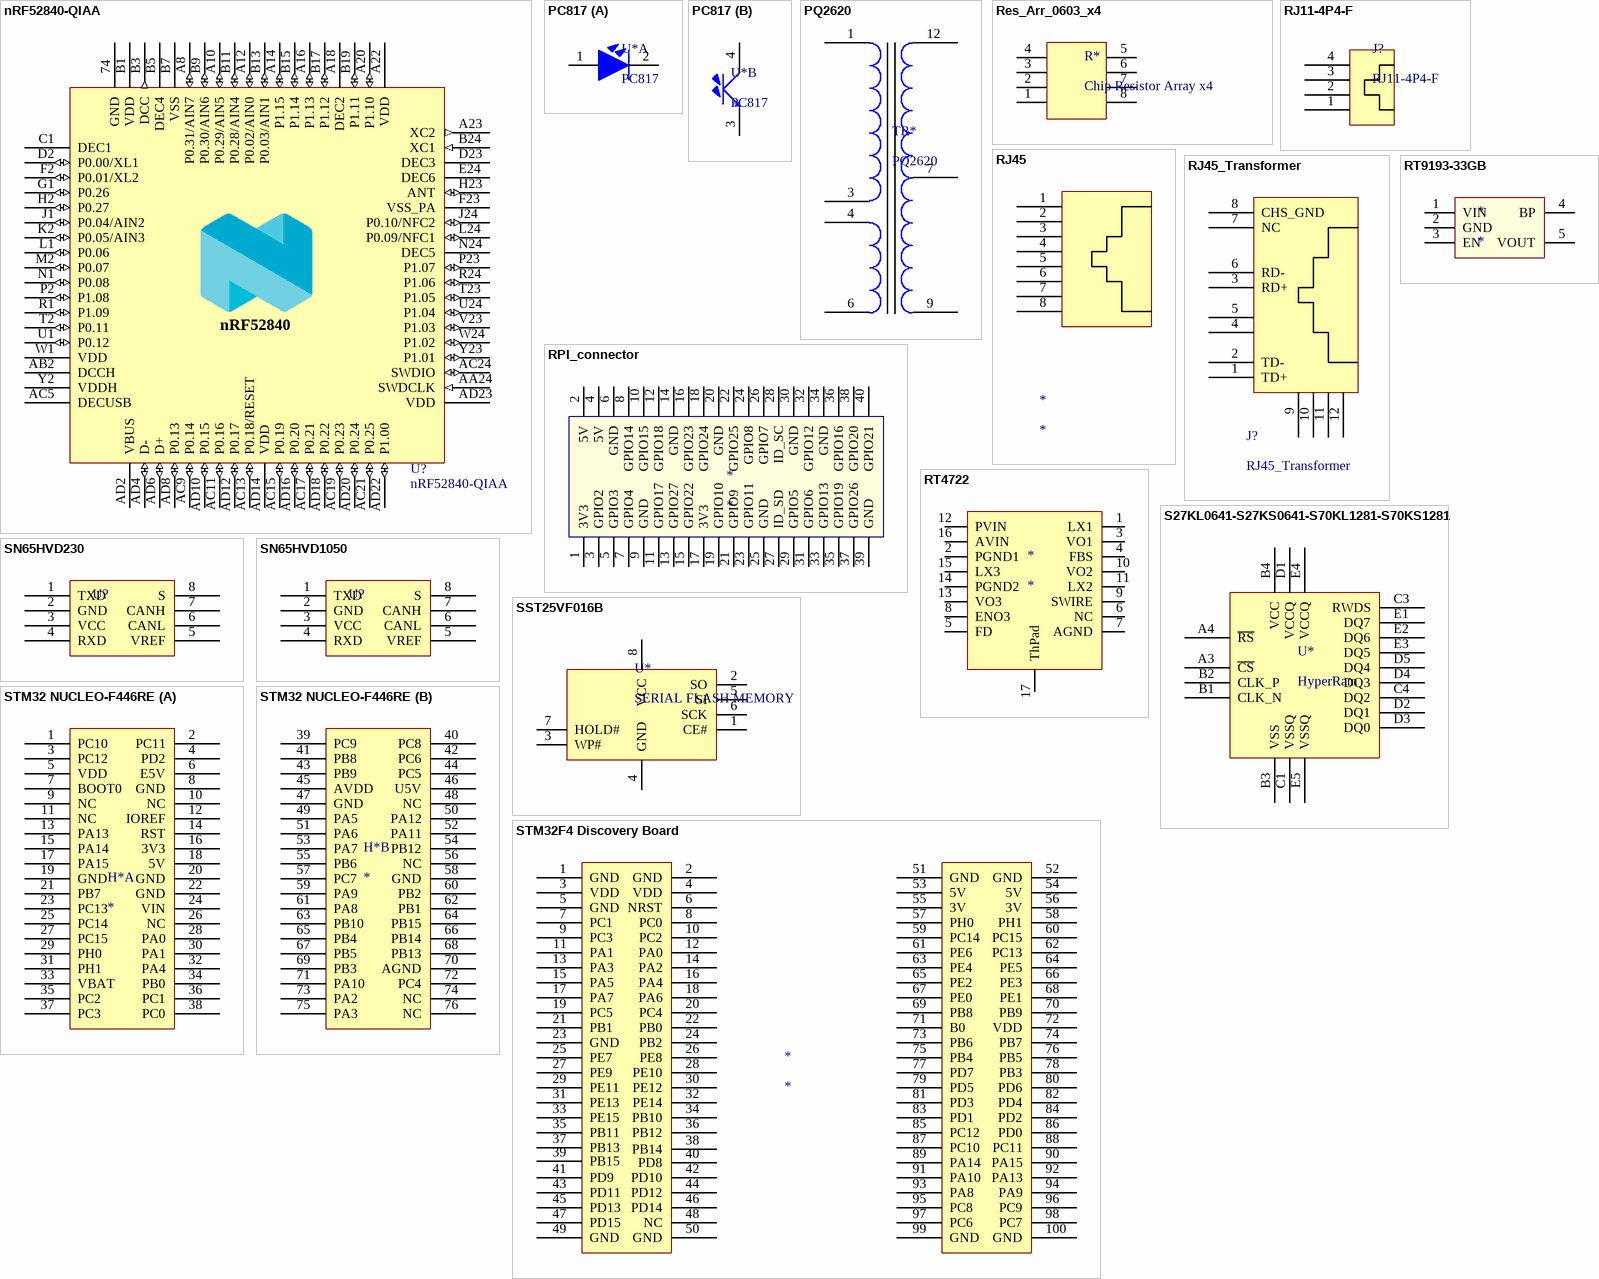
[diagram p4: symbols nRF52840-QIAA to STM32F4 Discovery Board]

## nRF52840-QIAA
designator U?
Multi-protocol Bluetooth Low Energy, IEEE 802.15.4, ANT and 2.4GHz proprietary system-on-chip; Pad Count: 73; Part Number: nRF52840-QIAA; LatestRevisionDate: 2017-08-21; Published: 2017-08-21; Value: nRF52840-QIAA; Footprint Doc: AQFN-73
footprint AQFN50P700X700X85_HS-74N
pins: 74 GND (power), A8 P0.31/AIN7 (io), A10 P0.29/AIN5 (io), A12 P0.02/AIN0 (io), A14 P1.15 (io), A16 P1.13 (io), A18 DEC2 (power), A20 P1.10 (io), A22 VDD (power), A23 XC2 (out), AA24 SWDCLK (in), AB2 DCCH (power), AC5 DECUSB (power), AC9 P0.14 (io), AC11 P0.16 (io), AC13 P0.18/RESET (io), AC15 P0.19 (io), AC17 P0.21 (io), AC19 P0.23 (io), AC21 P0.25 (io), AC24 SWDIO (io), AD2 VBUS (power), AD4 D- (io), AD6 D+ (io), AD8 P0.13 (io), AD10 P0.15 (io), AD12 P0.17 (io), AD14 VDD (power), AD16 P0.20 (io), AD18 P0.22 (io), AD20 P0.24 (io), AD22 P1.00 (io), AD23 VDD (power), B1 VDD (power), B3 DCC (out), B5 DEC4 (power), B7 VSS (power), B9 P0.30/AIN6 (io), B11 P0.28/AIN4 (io), B13 P0.03/AIN1 (io), B15 P1.14 (io), B17 P1.12 (io), B19 P1.11 (io), B24 XC1 (in), C1 DEC1 (power), D2 P0.00/XL1 (io), D23 DEC3 (power), E24 DEC6 (power), F2 P0.01/XL2 (io), F23 VSS_PA (power), G1 P0.26 (io), H2 P0.27 (io), H23 ANT (io), J1 P0.04/AIN2 (io), J24 P0.10/NFC2 (io), K2 P0.05/AIN3 (io), L1 P0.06 (io), L24 P0.09/NFC1 (io), M2 P0.07 (io), N1 P0.08 (io), N24 DEC5 (power), P2 P1.08 (io), P23 P1.07 (io), R1 P1.09 (io), R24 P1.06 (io), T2 P0.11 (io), T23 P1.05 (io), U1 P0.12 (io), U24 P1.04 (io), V23 P1.03 (io), W1 VDD (power), W24 P1.02 (io), Y2 VDDH (power), Y23 P1.01 (io)
text: nRF52840

## PC817
designator U*
part A pins: 1 0, 2 1
part B pins: 3, 4

## PQ2620
designator TR*
pins: 1 0, 3 2, 4, 6 5, 7 0, 9 0, 12 0

## Res_Arr_0603_x4
designator R*, comment Chip Resistor Array x4
footprint Res_Arr_0603_x4
pins: 1, 2, 3, 4, 5, 6, 7, 8

## RJ11-4P4-F
designator J?
pins: 1, 2, 3, 4

## RJ45
designator *
pins: 1, 2, 3, 4, 5, 6, 7, 8

## RJ45_Transformer
designator J?
pins: 1 TD+, 2 TD-, 3 RD+, 4, 5, 6 RD-, 7 NC, 8 CHS_GND, 9, 10, 11, 12

## RPI_connector
designator *
footprint RPI_Connector_female
pins: 1 3V3, 2 5V, 3 GPIO2, 4 5V, 5 GPIO3, 6 GND, 7 GPIO4, 8 GPIO14, 9 GND, 10 GPIO15, 11 GPIO17, 12 GPIO18, 13 GPIO27, 14 GND, 15 GPIO22, 16 GPIO23, 17 3V3, 18 GPIO24, 19 GPIO10, 20 GND, 21 GPIO9, 22 GPIO25, 23 GPIO11, 24 GPIO8, 25 GND, 26 GPIO7, 27 ID_SD, 28 ID_SC, 29 GPIO5, 30 GND, 31 GPIO6, 32 GPIO12, 33 GPIO13, 34 GND, 35 GPIO19, 36 GPIO16, 37 GPIO26, 38 GPIO20, 39 GND, 40 GPIO21

## RT4722
designator *
pins: 1 LX1, 2 PGND1, 3 VO1, 4 FBS, 5 FD, 6 NC, 7 AGND, 8 ENO3, 9 SWIRE, 10 VO2, 11 LX2, 12 PVIN, 13 VO3, 14 PGND2, 15 LX3, 16 AVIN, 17 ThPad

## RT9193-33GB
designator *
footprint SOT23(5) (SOT23, 5-Leads, Body 2.90x2.45mm, Pitch 0.95mm, IPC Medium Density)
pins: 1 VIN, 2 GND, 3 EN, 4 BP, 5 VOUT

## S27KL0641-S27KS0641-S70KL1281-S70KS1281
designator U*, comment HyperRam
footprint BGA_25-Leads_6x8x1_Pitch-1.00mm (BGA, 25-Leads, Body 6.00x8.00mmx1.00mm, Pitch 1.00mm)
pins: A3 ~{CS}, A4 ~{RS}, B1 CLK_N, B2 CLK_P, B3 VSS, B4 VCC, C1 VSSQ, C3 RWDS, C4 DQ2, D1 VCCQ, D2 DQ1, D3 DQ0, D4 DQ3, D5 DQ4, E1 DQ7, E2 DQ6, E3 DQ5, E4 VCCQ, E5 VSSQ

## SN65HVD230
designator U?
High-Speed EMC Optimized CAN Transceiver
footprint Model Name (Footprint not found)
footprint SOIC8 (SOIC, 8-Leads, Body 4.90x3.90mm, Pitch 1.27mm, IPC Low Density)
pins: 1 TXD, 2 GND, 3 VCC, 4 RXD, 5 VREF, 6 CANL, 7 CANH, 8 S

## SN65HVD1050
designator U?
High-Speed EMC Optimized CAN Transceiver
footprint Model Name (Footprint not found)
footprint SOIC8 (SOIC, 8-Leads, Body 4.90x3.90mm, Pitch 1.27mm, IPC Low Density)
pins: 1 TXD, 2 GND, 3 VCC, 4 RXD, 5 VREF, 6 CANL, 7 CANH, 8 S

## SST25VF016B
designator U*, comment SERIAL FLASH MEMORY
footprint SOIC8 (SOIC, 8-Leads, Body 4.90x3.90mm, Pitch 1.27mm, IPC Low Density)
pins: 1 CE#, 2 SO, 3 WP#, 4 GND, 5 SI, 6 SCK, 7 HOLD#, 8 VCC

## STM32 NUCLEO-F446RE
designator H*
footprint STM32 NUCLEO 64
part A pins: 1 PC10, 2 PC11, 3 PC12, 4 PD2, 5 VDD, 6 E5V, 7 BOOT0, 8 GND, 9 NC, 10 NC, 11 NC, 12 IOREF, 13 PA13, 14 RST, 15 PA14, 16 3V3, 17 PA15, 18 5V, 19 GND, 20 GND, 21 PB7, 22 GND, 23 PC13, 24 VIN, 25 PC14, 26 NC, 27 PC15, 28 PA0, 29 PH0, 30 PA1, 31 PH1, 32 PA4, 33 VBAT, 34 PB0, 35 PC2, 36 PC1, 37 PC3, 38 PC0
part B pins: 39 PC9, 40 PC8, 41 PB8, 42 PC6, 43 PB9, 44 PC5, 45 AVDD, 46 U5V, 47 GND, 48 NC, 49 PA5, 50 PA12, 51 PA6, 52 PA11, 53 PA7, 54 PB12, 55 PB6, 56 NC, 57 PC7, 58 GND, 59 PA9, 60 PB2, 61 PA8, 62 PB1, 63 PB10, 64 PB15, 65 PB4, 66 PB14, 67 PB5, 68 PB13, 69 PB3, 70 AGND, 71 PA10, 72 PC4, 73 PA2, 74 NC, 75 PA3, 76 NC

## STM32F4 Discovery Board
designator *
pins: 1 GND, 2 GND, 3 VDD, 4 VDD, 5 GND, 6 NRST, 7 PC1, 8 PC0, 9 PC3, 10 PC2, 11 PA1, 12 PA0, 13 PA3, 14 PA2, 15 PA5, 16 PA4, 17 PA7, 18 PA6, 19 PC5, 20 PC4, 21 PB1, 22 PB0, 23 GND, 24 PB2, 25 PE7, 26 PE8, 27 PE9, 28 PE10, 29 PE11, 30 PE12, 31 PE13, 32 PE14, 33 PE15, 34 PB10, 35 PB11, 36 PB12, 37 PB13, 38 PB14, 39 PB15, 40 PD8, 41 PD9, 42 PD10, 43 PD11, 44 PD12, 45 PD13, 46 PD14, 47 PD15, 48 NC, 49 GND, 50 GND, 51 GND, 52 GND, 53 5V, 54 5V, 55 3V, 56 3V, 57 PH0, 58 PH1, 59 PC14, 60 PC15, 61 PE6, 62 PC13, 63 PE4, 64 PE5, 65 PE2, 66 PE3, 67 PE0, 68 PE1, 69 PB8, 70 PB9, 71 B0, 72 VDD, 73 PB6, 74 PB7, 75 PB4, 76 PB5, 77 PD7, 78 PB3, 79 PD5, 80 PD6, 81 PD3, 82 PD4, 83 PD1, 84 PD2, 85 PC12, 86 PD0, 87 PC10, 88 PC11, 89 PA14, 90 PA15, 91 PA10, 92 PA13, 93 PA8, 94 PA9, 95 PC8, 96 PC9, 97 PC6, 98 PC7, 99 GND, 100 GND

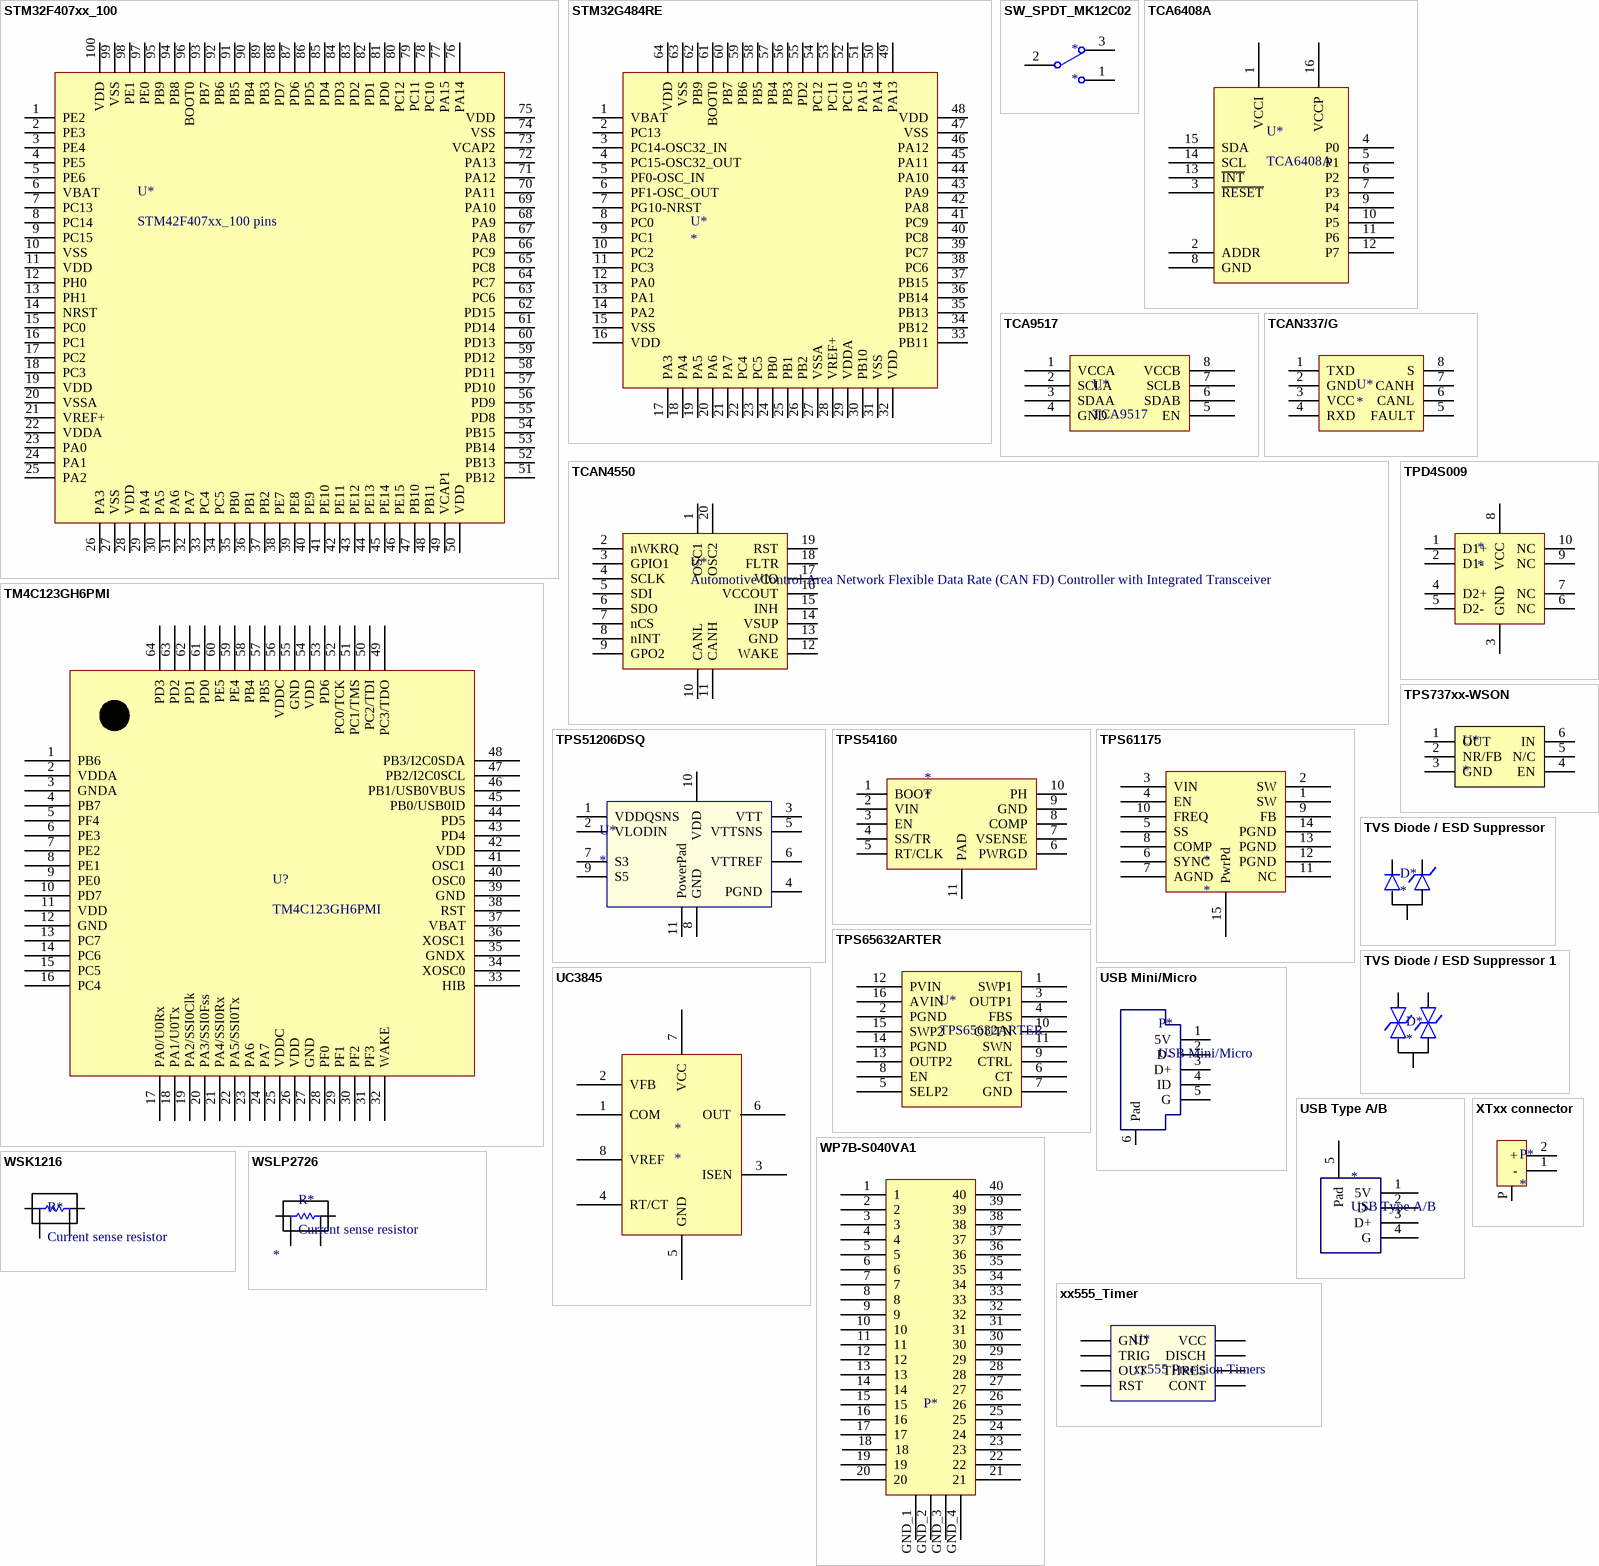
[diagram p5: symbols STM32F407xx_100 to xx555_Timer]

## STM32F407xx_100
designator U*, comment STM42F407xx_100 pins
footprint LQFP100
pins: 1 PE2, 2 PE3, 3 PE4, 4 PE5, 5 PE6, 6 VBAT, 7 PC13, 8 PC14, 9 PC15, 10 VSS, 11 VDD, 12 PH0, 13 PH1, 14 NRST, 15 PC0, 16 PC1, 17 PC2, 18 PC3, 19 VDD, 20 VSSA, 21 VREF+, 22 VDDA, 23 PA0, 24 PA1, 25 PA2, 26 PA3, 27 VSS, 28 VDD, 29 PA4, 30 PA5, 31 PA6, 32 PA7, 33 PC4, 34 PC5, 35 PB0, 36 PB1, 37 PB2, 38 PE7, 39 PE8, 40 PE9, 41 PE10, 42 PE11, 43 PE12, 44 PE13, 45 PE14, 46 PE15, 47 PB10, 48 PB11, 49 VCAP1, 50 VDD, 51 PB12, 52 PB13, 53 PB14, 54 PB15, 55 PD8, 56 PD9, 57 PD10, 58 PD11, 59 PD12, 60 PD13, 61 PD14, 62 PD15, 63 PC6, 64 PC7, 65 PC8, 66 PC9, 67 PA8, 68 PA9, 69 PA10, 70 PA11, 71 PA12, 72 PA13, 73 VCAP2, 74 VSS, 75 VDD, 76 PA14, 77 PA15, 78 PC10, 79 PC11, 80 PC12, 81 PD0, 82 PD1, 83 PD2, 84 PD3, 85 PD4, 86 PD5, 87 PD6, 88 PD7, 89 PB3, 90 PB4, 91 PB5, 92 PB6, 93 PB7, 94 PB8, 95 PB9, 96 BOOT0, 97 PE0, 98 PE1, 99 VSS, 100 VDD

## STM32G484RE
designator U*
pins: 1 VBAT, 2 PC13, 3 PC14-OSC32_IN, 4 PC15-OSC32_OUT, 5 PF0-OSC_IN, 6 PF1-OSC_OUT, 7 PG10-NRST, 8 PC0, 9 PC1, 10 PC2, 11 PC3, 12 PA0, 13 PA1, 14 PA2, 15 VSS, 16 VDD, 17 PA3, 18 PA4, 19 PA5, 20 PA6, 21 PA7, 22 PC4, 23 PC5, 24 PB0, 25 PB1, 26 PB2, 27 VSSA, 28 VREF+, 29 VDDA, 30 PB10, 31 VSS, 32 VDD, 33 PB11, 34 PB12, 35 PB13, 36 PB14, 37 PB15, 38 PC6, 39 PC7, 40 PC8, 41 PC9, 42 PA8, 43 PA9, 44 PA10, 45 PA11, 46 PA12, 47 VSS, 48 VDD, 49 PA13, 50 PA14, 51 PA15, 52 PC10, 53 PC11, 54 PC12, 55 PD2, 56 PB3, 57 PB4, 58 PB5, 59 PB6, 60 PB7, 61 BOOT0, 62 PB9, 63 VSS, 64 VDD

## SW_SPDT_MK12C02
designator *
footprint SW_SMD_SLIDE_SWITCH_MK12C02
pins: 0 hidden to GND, 1, 2, 3

## TCA6408A
designator U*
Low-voltage 8-bit I2C and SMBus IO Expander With Interrupt Output, Reset, and Configuration Registers
footprint QFN16_pitch 0.5
footprint UQFN16_pitch 0.4
footprint TSSOP-16-PITCH 0.65
pins: 1 VCCI, 2 ADDR, 3 ~{RESET}, 4 P0, 5 P1, 6 P2, 7 P3, 8 GND, 9 P4, 10 P5, 11 P6, 12 P7, 13 ~{INT}, 14 SCL, 15 SDA, 16 VCCP

## TCA9517
designator U*
Level-shifting I2C Bus Repeater
footprint SOIC8 (SOIC, 8-Leads, Body 4.90x3.90mm, Pitch 1.27mm, IPC Low Density)
footprint VSSOP8_P_0.65 (VSSOP 8 pins 3.1x3.1 pitch 0.65)
pins: 1 VCCA, 2 SCLA, 3 SDAA, 4 GND, 5 EN, 6 SDAB, 7 SCLB, 8 VCCB

## TCAN337/G
designator U*
TCAN33x 3.3-V CAN Transceivers with CAN FD (Flexible Data Rate)
footprint SOIC8 (SOIC, 8-Leads, Body 4.90x3.90mm, Pitch 1.27mm, IPC Low Density)
footprint SOT23(8) (SOT23, 8-Leads, Body 2.90x1.60mm, Pitch 0.65mm, IPC High Density)
pins: 1 TXD, 2 GND, 3 VCC, 4 RXD, 5 FAULT, 6 CANL, 7 CANH, 8 S

## TCAN4550
designator U*, comment Automotive Control Area Network Flexible Data Rate (CAN FD) Controller with Integrated Transceiver
pins: 1 OSC1, 2 nWKRQ, 3 GPIO1, 4 SCLK, 5 SDI, 6 SDO, 7 nCS, 8 nINT, 9 GPO2, 10 CANL, 11 CANH, 12 WAKE, 13 GND, 14 VSUP, 15 INH, 16 VCCOUT, 17 VIO, 18 FLTR, 19 RST, 20 OSC2

## TM4C123GH6PMI
designator U?
Tiva M4C123
footprint LQFP64 (LQFP, 64-Leads, Body 10.00x10.00mm, Pitch 0.50mm, IPC Medium Density)
pins: 1 PB6, 2 VDDA, 3 GNDA, 4 PB7, 5 PF4, 6 PE3, 7 PE2, 8 PE1, 9 PE0, 10 PD7, 11 VDD, 12 GND, 13 PC7, 14 PC6, 15 PC5, 16 PC4, 17 PA0/U0Rx, 18 PA1/U0Tx, 19 PA2/SSI0Clk, 20 PA3/SSI0Fss, 21 PA4/SSI0Rx, 22 PA5/SSI0Tx, 23 PA6, 24 PA7, 25 VDDC, 26 VDD, 27 GND, 28 PF0, 29 PF1, 30 PF2, 31 PF3, 32 WAKE, 33 HIB, 34 XOSC0, 35 GNDX, 36 XOSC1, 37 VBAT, 38 RST, 39 GND, 40 OSC0, 41 OSC1, 42 VDD, 43 PD4, 44 PD5, 45 PB0/USB0ID, 46 PB1/USB0VBUS, 47 PB2/I2C0SCL, 48 PB3/I2C0SDA, 49 PC3/TDO, 50 PC2/TDI, 51 PC1/TMS, 52 PC0/TCK, 53 PD6, 54 VDD, 55 GND, 56 VDDC, 57 PB5, 58 PB4, 59 PE4, 60 PE5, 61 PD0, 62 PD1, 63 PD2, 64 PD3

## TPD4S009
designator *
pins: 1 D1+, 2 D1-, 3 GND, 4 D2+, 5 D2-, 6 NC, 7 NC, 8 VCC, 9 NC, 10 NC

## TPS737xx-WSON
designator U*
footprint WSON_6_PITCH 0.65
pins: 1 OUT, 2 NR/FB, 3 GND, 4 EN, 5 N/C, 6 IN

## TPS51206DSQ
designator U*
footprint PSON-10-2x2-pitch 0.4
pins: 1 VDDQSNS, 2 VLODIN, 3 VTT, 4 PGND, 5 VTTSNS, 6 VTTREF, 7 S3, 8 GND, 9 S5, 10 VDD, 11 PowerPad

## TPS54160
designator *
footprint TPS54160_VSON (VSON, 10-Leads, Body 3.00x3.00mm, Pitch 0.50mm, Thermal Pad 2.40x1.62mm, IPC Medium Density)
pins: 1 BOOT, 2 VIN, 3 EN, 4 SS/TR, 5 RT/CLK, 6 PWRGD, 7 VSENSE, 8 COMP, 9 GND, 10 PH, 11 PAD

## TPS61175
designator *
footprint HTSSOP14 (HTSSOP, 14-Leads, Body 5.00x4.40mm, Pitch 0.65mm, Thermal Pad 2.31x2.46mm, IPC Medium Density)
pins: 1 SW, 2 SW, 3 VIN, 4 EN, 5 SS, 6 SYNC, 7 AGND, 8 COMP, 9 FB, 10 FREQ, 11 NC, 12 PGND, 13 PGND, 14 PGND, 15 PwrPd

## TPS65632ARTER
designator U*
footprint QFN16_pitch 0.5
pins: 1 SWP1, 2 PGND, 3 OUTP1, 4 FBS, 5 SELP2, 6 CT, 7 GND, 8 EN, 9 CTRL, 10 OUTN, 11 SWN, 12 PVIN, 13 OUTP2, 14 PGND, 15 SWP2, 16 AVIN

## TVS Diode / ESD Suppressor
designator D*
footprint SOT23(3) (SOT23, 5-Leads, Body 2.90x2.45mm, Pitch 0.95mm, IPC Medium Density)
pins: 1, 2, 3

## TVS Diode / ESD Suppressor 1
designator D*
footprint SOT23(3) (SOT23, 5-Leads, Body 2.90x2.45mm, Pitch 0.95mm, IPC Medium Density)
pins: 1, 2, 3

## UC3845
designator *
pins: 1 COM, 2 VFB, 3 ISEN, 4 RT/CT, 5 GND, 6 OUT, 7 VCC, 8 VREF

## USB Mini/Micro
designator P*
footprint USB MINI TYPE B - 5 PINS
footprint USB MICRO TYPE B - 5 PINS - 1
pins: 1 5V, 2 D-, 3 D+, 4 ID, 5 G, 6 Pad

## USB Type A/B
designator *
footprint USB TYPE A FEMALE RA
pins: 1 5V, 2 D-, 3 D+, 4 G, 5 Pad

## WP7B-S040VA1
designator P*  (value not drawn)
footprint WP7B-S040VA1
pins: 1, 2, 3, 4, 5, 6, 7, 8, 9, 10, 11, 12, 13, 14, 15, 16, 17, 18, 19, 20, 21, 22, 23, 24, 25, 26, 27, 28, 29, 30, 31, 32, 33, 34, 35, 36, 37, 38, 39, 40, GND_1, GND_2, GND_3, GND_4

## WSK1216
designator R*, comment Current sense resistor
Power Metal Strip® Resistors, Low Value, High Power, Surface-Mount, 4-Terminal
footprint WSK1216
pins: 1, 2, 3, 4

## WSLP2726
designator R*, comment Current sense resistor
Power Metal Strip® Resistors, Very High Power (to 12 W), / Low Value (Down to 0.0002 Ω), Surface Mount; value: *
footprint WSLP2726 (Power Metal Strip Resistors, Very High Power (to 12 W),  Low Value (Down to 0.0002 O), Surface Mount)
pins: 1, 2, 3, 4

## XTxx connector
designator P*
footprint XT60PB-F
footprint XT60PB-M
footprint XT60PW-F
footprint XT60PW-M
pins: 1 -, 2 +, P Pad

## xx555_Timer
designator U*, comment xx555 Precision Timers
footprint SOIC8 (SOIC, 8-Leads, Body 4.90x3.90mm, Pitch 1.27mm, IPC Low Density)
pins: 1 GND, 2 TRIG, 3 OUT, 4 RST, 5 CONT, 6 THRES, 7 DISCH, 8 VCC